# Altium footprint library Modules.PcbLib: 14 footprints (part 3 of 6)
Each footprint in its own frame and in the unit in brackets; x right, y up, seen from the top. Pads: shape width x height; smd on the part's side, far side on the other; paste and mask are expansions set on the pad; w line width, h text height; cw(c..) or ccw(c..) is an arc to the next point about the centre after c.
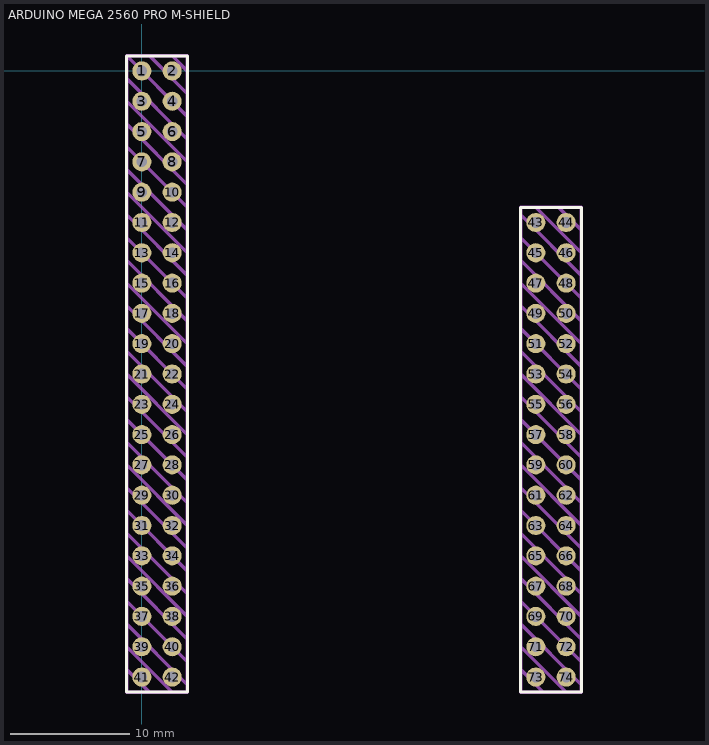
[diagram p2: the footprint, top view; thin cyan lines are the x and y axes]

## ARDUINO MEGA 2560 PRO M-SHIELD [mm]
pads (74):
  round 1.6 hole 0.9: 1(0,0) 2(2.54,0) 3(0,-2.54) 4(2.54,-2.54) 5(0,-5.08) 6(2.54,-5.08) 7(0,-7.62) 8(2.54,-7.62) 9(0,-10.16) 10(2.54,-10.16) 11(0,-12.7) 12(2.54,-12.7) 13(0,-15.24) 14(2.54,-15.24) 15(0,-17.78) 16(2.54,-17.78) 17(0,-20.32) 18(2.54,-20.32) 19(0,-22.86) 20(2.54,-22.86) 21(0,-25.4) 22(2.54,-25.4) 23(0,-27.94) 24(2.54,-27.94) 25(0,-30.48) 26(2.54,-30.48) 27(0,-33.02) 28(2.54,-33.02) 29(0,-35.56) 30(2.54,-35.56) 31(0,-38.1) 32(2.54,-38.1) 33(0,-40.64) 34(2.54,-40.64) 35(0,-43.18) 36(2.54,-43.18) 37(0,-45.72) 38(2.54,-45.72) 39(0,-48.26) 40(2.54,-48.26) 41(0,-50.8) 42(2.54,-50.8) 43(33.02,-12.7) 44(35.56,-12.7) 45(33.02,-15.24) 46(35.56,-15.24) 47(33.02,-17.78) 48(35.56,-17.78) 49(33.02,-20.32) 50(35.56,-20.32) 51(33.02,-22.86) 52(35.56,-22.86) 53(33.02,-25.4) 54(35.56,-25.4) 55(33.02,-27.94) 56(35.56,-27.94) 57(33.02,-30.48) 58(35.56,-30.48) 59(33.02,-33.02) 60(35.56,-33.02) 61(33.02,-35.56) 62(35.56,-35.56) 63(33.02,-38.1) 64(35.56,-38.1) 65(33.02,-40.64) 66(35.56,-40.64) 67(33.02,-43.18) 68(35.56,-43.18) 69(33.02,-45.72) 70(35.56,-45.72) 71(33.02,-48.26) 72(35.56,-48.26) 73(33.02,-50.8) 74(35.56,-50.8)
Top Overlay:
  lines w0.25: -1.27,-52.07 3.81,-52.07 3.81,1.27 -1.27,1.27 -1.27,-52.07 ; 31.75,-52.07 31.75,-11.43 36.83,-11.43 36.83,-52.07 31.75,-52.07
Top Draw:
  lines w0.3: -1.27,-50.165 0.635,-52.07 ; -1.27,-48.26 2.54,-52.07 ; -1.27,-46.355 3.81,-51.435 ; -1.27,-44.45 3.81,-49.53 ; -1.27,-42.545 3.81,-47.625 ; -1.27,-40.64 3.81,-45.72 ; -1.27,-38.735 3.81,-43.815 ; -1.27,-36.83 3.81,-41.91 ; -1.27,-34.925 3.81,-40.005 ; -1.27,-33.02 3.81,-38.1 ; -1.27,-31.115 3.81,-36.195 ; -1.27,-29.21 3.81,-34.29 ; -1.27,-27.305 3.81,-32.385 ; -1.27,-25.4 3.81,-30.48 ; -1.27,-23.495 3.81,-28.575 ; -1.27,-21.59 3.81,-26.67 ; -1.27,-19.685 3.81,-24.765 ; -1.27,-17.78 3.81,-22.86 ; -1.27,-15.875 3.81,-20.955 ; -1.27,-13.97 3.81,-19.05 ; -1.27,-12.065 3.81,-17.145 ; -1.27,-10.16 3.81,-15.24 ; -1.27,-8.255 3.81,-13.335 ; -1.27,-6.35 3.81,-11.43 ; -1.27,-4.445 3.81,-9.525 ; -1.27,-2.54 3.81,-7.62 ; -1.27,-0.635 3.81,-5.715 ; 0.635,1.27 3.81,-1.905 ; 2.54,1.27 3.81,0 ; 3.81,-3.81 -1.27,1.27 ; 31.75,-50.165 33.655,-52.07 ; 31.75,-48.26 35.56,-52.07 ; 31.75,-46.355 36.83,-51.435 ; 31.75,-44.45 36.83,-49.53 ; 31.75,-42.545 36.83,-47.625 ; 31.75,-40.64 36.83,-45.72 ; 31.75,-38.735 36.83,-43.815 ; 31.75,-36.83 36.83,-41.91 ; 31.75,-34.925 36.83,-40.005 ; 31.75,-33.02 36.83,-38.1 ; 31.75,-31.115 36.83,-36.195 ; 31.75,-29.21 36.83,-34.29 ; 31.75,-27.305 36.83,-32.385 ; 31.75,-25.4 36.83,-30.48 ; 31.75,-23.495 36.83,-28.575 ; 31.75,-21.59 36.83,-26.67 ; 31.75,-19.685 36.83,-24.765 ; 31.75,-17.78 36.83,-22.86 ; 31.75,-15.875 36.83,-20.955 ; 31.75,-13.97 36.83,-19.05 ; 31.75,-12.065 36.83,-17.145 ; 33.02,-11.43 36.83,-15.24 ; 34.925,-11.43 36.83,-13.335 ; -1.27,1.27 -1.27,-52.07 3.81,-52.07 3.81,1.27 -1.27,1.27 ; 31.75,-52.07 31.75,-11.43 36.83,-11.43 36.83,-52.07 31.75,-52.07
3D body: height 8, standoff 7.5, extent 36.068,-51.816 36.569,-49.784
3D body: height 7.5, standoff 0, extent 36.068,-51.333 36.094,-50.267
3D body: height 7.5, standoff 0, extent 35.027,-51.333 36.093,-51.308
3D body: height 8, standoff 7.5, extent 34.544,-51.808 36.576,-51.308
3D body: height 8, standoff 7.5, extent 34.544,-50.292 36.576,-49.791
3D body: height 8, standoff 7.5, extent 34.552,-51.841 35.052,-49.809
3D body: height 8, standoff 0, extent 34.29,-49.809 36.83,-49.53
3D body: height 1, standoff 0, extent 34.925,-51.435 36.195,-50.165
3D body: height 7, standoff 0, extent 36.043,-51.333 36.093,-50.266
3D body: height 7, standoff 0, extent 35.027,-51.333 36.093,-51.282
3D body: height 7, standoff 0, extent 35.027,-51.333 35.077,-50.266
3D body: height 8, standoff 0, extent 34.29,-52.07 34.57,-49.53
3D body: height 0, standoff -3, extent 35.306,-50.927 35.814,-50.673
3D body: height 8, standoff 0, extent 36.551,-52.07 36.83,-49.53
3D body: height 8, standoff 0, extent 34.29,-52.07 36.83,-51.79
3D body: height 7.5, standoff 0, extent 35.027,-51.333 35.052,-50.266
3D body: height 7.5, standoff 0, extent 35.027,-50.292 36.094,-50.266
3D body: height 7, standoff 0, extent 35.027,-50.317 36.093,-50.266
3D body: height 8, standoff 7.5, extent 33.528,-51.816 34.029,-49.784
3D body: height 7.5, standoff 0, extent 33.528,-51.333 33.554,-50.267
3D body: height 7.5, standoff 0, extent 32.487,-51.333 33.553,-51.308
3D body: height 8, standoff 7.5, extent 32.004,-51.808 34.036,-51.308
3D body: height 8, standoff 7.5, extent 32.004,-50.292 34.036,-49.791
3D body: height 8, standoff 7.5, extent 32.012,-51.841 32.512,-49.809
3D body: height 8, standoff 0, extent 31.75,-49.809 34.29,-49.53
3D body: height 1, standoff 0, extent 32.385,-51.435 33.655,-50.165
3D body: height 7, standoff 0, extent 33.503,-51.333 33.553,-50.266
3D body: height 7, standoff 0, extent 32.487,-51.333 33.553,-51.282
3D body: height 7, standoff 0, extent 32.487,-51.333 32.537,-50.266
3D body: height 8, standoff 0, extent 31.75,-52.07 32.03,-49.53
3D body: height 0, standoff -3, extent 32.766,-50.927 33.274,-50.673
3D body: height 8, standoff 0, extent 34.011,-52.07 34.29,-49.53
3D body: height 8, standoff 0, extent 31.75,-52.07 34.29,-51.79
3D body: height 7.5, standoff 0, extent 32.487,-51.333 32.512,-50.266
3D body: height 7.5, standoff 0, extent 32.487,-50.292 33.554,-50.266
3D body: height 7, standoff 0, extent 32.487,-50.317 33.553,-50.266
3D body: height 8, standoff 7.5, extent 36.068,-46.736 36.569,-44.704
3D body: height 7.5, standoff 0, extent 36.068,-48.793 36.094,-47.727
3D body: height 7.5, standoff 0, extent 35.027,-48.793 36.093,-48.768
3D body: height 8, standoff 7.5, extent 34.544,-49.268 36.576,-48.768
3D body: height 8, standoff 7.5, extent 36.068,-49.276 36.569,-47.244
3D body: height 8, standoff 7.5, extent 34.544,-47.752 36.576,-47.251
3D body: height 8, standoff 7.5, extent 34.552,-49.301 35.052,-47.269
3D body: height 8, standoff 0, extent 34.29,-47.269 36.83,-46.99
3D body: height 1, standoff 0, extent 34.925,-48.895 36.195,-47.625
3D body: height 7, standoff 0, extent 36.043,-48.793 36.093,-47.726
3D body: height 7, standoff 0, extent 35.027,-48.793 36.093,-48.742
3D body: height 7, standoff 0, extent 35.027,-48.793 35.077,-47.726
3D body: height 8, standoff 0, extent 34.29,-49.53 34.57,-46.99
3D body: height 0, standoff -3, extent 35.306,-48.387 35.814,-48.133
3D body: height 8, standoff 0, extent 36.551,-49.53 36.83,-46.99
3D body: height 8, standoff 0, extent 34.29,-49.53 36.83,-49.25
3D body: height 7.5, standoff 0, extent 35.027,-48.793 35.052,-47.726
3D body: height 7.5, standoff 0, extent 35.027,-47.752 36.094,-47.726
3D body: height 7, standoff 0, extent 35.027,-47.777 36.093,-47.726
3D body: height 7.5, standoff 0, extent 36.068,-46.253 36.094,-45.187
3D body: height 7.5, standoff 0, extent 35.027,-46.253 36.093,-46.228
3D body: height 8, standoff 7.5, extent 34.544,-46.728 36.576,-46.228
3D body: height 8, standoff 7.5, extent 34.544,-45.212 36.576,-44.711
3D body: height 8, standoff 7.5, extent 34.552,-46.761 35.052,-44.729
3D body: height 8, standoff 0, extent 34.29,-44.729 36.83,-44.45
3D body: height 1, standoff 0, extent 34.925,-46.355 36.195,-45.085
3D body: height 7, standoff 0, extent 36.043,-46.253 36.093,-45.186
3D body: height 7, standoff 0, extent 35.027,-46.253 36.093,-46.202
3D body: height 7, standoff 0, extent 35.027,-46.253 35.077,-45.186
3D body: height 8, standoff 0, extent 34.29,-46.99 34.57,-44.45
3D body: height 0, standoff -3, extent 35.306,-45.847 35.814,-45.593
3D body: height 8, standoff 0, extent 36.551,-46.99 36.83,-44.45
3D body: height 8, standoff 0, extent 34.29,-46.99 36.83,-46.71
3D body: height 7.5, standoff 0, extent 35.027,-46.253 35.052,-45.186
3D body: height 7.5, standoff 0, extent 35.027,-45.212 36.094,-45.186
3D body: height 7, standoff 0, extent 35.027,-45.237 36.093,-45.186
3D body: height 8, standoff 7.5, extent 33.528,-46.736 34.029,-44.704
3D body: height 7.5, standoff 0, extent 33.528,-48.793 33.554,-47.727
3D body: height 7.5, standoff 0, extent 32.487,-48.793 33.553,-48.768
3D body: height 8, standoff 7.5, extent 32.004,-49.268 34.036,-48.768
3D body: height 8, standoff 7.5, extent 33.528,-49.276 34.029,-47.244
3D body: height 8, standoff 7.5, extent 32.004,-47.752 34.036,-47.251
3D body: height 8, standoff 7.5, extent 32.012,-49.301 32.512,-47.269
3D body: height 8, standoff 0, extent 31.75,-47.269 34.29,-46.99
3D body: height 1, standoff 0, extent 32.385,-48.895 33.655,-47.625
3D body: height 7, standoff 0, extent 33.503,-48.793 33.553,-47.726
3D body: height 7, standoff 0, extent 32.487,-48.793 33.553,-48.742
3D body: height 7, standoff 0, extent 32.487,-48.793 32.537,-47.726
3D body: height 8, standoff 0, extent 31.75,-49.53 32.03,-46.99
3D body: height 0, standoff -3, extent 32.766,-48.387 33.274,-48.133
3D body: height 8, standoff 0, extent 34.011,-49.53 34.29,-46.99
3D body: height 8, standoff 0, extent 31.75,-49.53 34.29,-49.25
3D body: height 7.5, standoff 0, extent 32.487,-48.793 32.512,-47.726
3D body: height 7.5, standoff 0, extent 32.487,-47.752 33.554,-47.726
3D body: height 7, standoff 0, extent 32.487,-47.777 33.553,-47.726
3D body: height 7.5, standoff 0, extent 33.528,-46.253 33.554,-45.187
3D body: height 7.5, standoff 0, extent 32.487,-46.253 33.553,-46.228
3D body: height 8, standoff 7.5, extent 32.004,-46.728 34.036,-46.228
3D body: height 8, standoff 7.5, extent 32.004,-45.212 34.036,-44.711
3D body: height 8, standoff 7.5, extent 32.012,-46.761 32.512,-44.729
3D body: height 8, standoff 0, extent 31.75,-44.729 34.29,-44.45
3D body: height 1, standoff 0, extent 32.385,-46.355 33.655,-45.085
3D body: height 7, standoff 0, extent 33.503,-46.253 33.553,-45.186
3D body: height 7, standoff 0, extent 32.487,-46.253 33.553,-46.202
3D body: height 7, standoff 0, extent 32.487,-46.253 32.537,-45.186
3D body: height 8, standoff 0, extent 31.75,-46.99 32.03,-44.45
3D body: height 0, standoff -3, extent 32.766,-45.847 33.274,-45.593
3D body: height 8, standoff 0, extent 34.011,-46.99 34.29,-44.45
3D body: height 8, standoff 0, extent 31.75,-46.99 34.29,-46.71
3D body: height 7.5, standoff 0, extent 32.487,-46.253 32.512,-45.186
3D body: height 7.5, standoff 0, extent 32.487,-45.212 33.554,-45.186
3D body: height 7, standoff 0, extent 32.487,-45.237 33.553,-45.186
3D body: height 8, standoff 7.5, extent 36.068,-41.656 36.569,-39.624
3D body: height 7.5, standoff 0, extent 36.068,-43.713 36.094,-42.647
3D body: height 7.5, standoff 0, extent 35.027,-43.713 36.094,-43.688
3D body: height 8, standoff 7.5, extent 34.544,-44.188 36.576,-43.688
3D body: height 8, standoff 7.5, extent 36.068,-44.196 36.569,-42.164
3D body: height 8, standoff 7.5, extent 34.544,-42.672 36.576,-42.171
3D body: height 8, standoff 7.5, extent 34.552,-44.221 35.052,-42.189
3D body: height 8, standoff 0, extent 34.29,-42.189 36.83,-41.91
3D body: height 1, standoff 0, extent 34.925,-43.815 36.195,-42.545
3D body: height 7, standoff 0, extent 36.043,-43.713 36.094,-42.646
3D body: height 7, standoff 0, extent 35.027,-43.713 36.094,-43.662
3D body: height 7, standoff 0, extent 35.027,-43.713 35.078,-42.646
3D body: height 8, standoff 0, extent 34.29,-44.45 34.57,-41.91
3D body: height 0, standoff -3, extent 35.306,-43.307 35.814,-43.053
3D body: height 8, standoff 0, extent 36.551,-44.45 36.83,-41.91
3D body: height 8, standoff 0, extent 34.29,-44.45 36.83,-44.171
3D body: height 7.5, standoff 0, extent 35.027,-43.713 35.052,-42.647
3D body: height 7.5, standoff 0, extent 35.027,-42.672 36.094,-42.647
3D body: height 7, standoff 0, extent 35.027,-42.697 36.094,-42.646
3D body: height 7.5, standoff 0, extent 36.068,-41.173 36.094,-40.107
3D body: height 7.5, standoff 0, extent 35.027,-41.173 36.094,-41.148
3D body: height 8, standoff 7.5, extent 34.544,-41.648 36.576,-41.148
3D body: height 8, standoff 7.5, extent 34.544,-40.132 36.576,-39.631
3D body: height 8, standoff 7.5, extent 34.552,-41.681 35.052,-39.649
3D body: height 8, standoff 0, extent 34.29,-39.649 36.83,-39.37
3D body: height 1, standoff 0, extent 34.925,-41.275 36.195,-40.005
3D body: height 7, standoff 0, extent 36.043,-41.173 36.094,-40.106
3D body: height 7, standoff 0, extent 35.027,-41.173 36.094,-41.122
3D body: height 7, standoff 0, extent 35.027,-41.173 35.078,-40.106
3D body: height 8, standoff 0, extent 34.29,-41.91 34.57,-39.37
3D body: height 0, standoff -3, extent 35.306,-40.767 35.814,-40.513
3D body: height 8, standoff 0, extent 36.551,-41.91 36.83,-39.37
3D body: height 8, standoff 0, extent 34.29,-41.91 36.83,-41.631
3D body: height 7.5, standoff 0, extent 35.027,-41.173 35.052,-40.107
3D body: height 7.5, standoff 0, extent 35.027,-40.132 36.094,-40.107
3D body: height 7, standoff 0, extent 35.027,-40.157 36.094,-40.106
3D body: height 8, standoff 7.5, extent 33.528,-41.656 34.029,-39.624
3D body: height 7.5, standoff 0, extent 33.528,-43.713 33.554,-42.647
3D body: height 7.5, standoff 0, extent 32.487,-43.713 33.554,-43.688
3D body: height 8, standoff 7.5, extent 32.004,-44.188 34.036,-43.688
3D body: height 8, standoff 7.5, extent 33.528,-44.196 34.029,-42.164
3D body: height 8, standoff 7.5, extent 32.004,-42.672 34.036,-42.171
3D body: height 8, standoff 7.5, extent 32.012,-44.221 32.512,-42.189
3D body: height 8, standoff 0, extent 31.75,-42.189 34.29,-41.91
3D body: height 1, standoff 0, extent 32.385,-43.815 33.655,-42.545
3D body: height 7, standoff 0, extent 33.503,-43.713 33.554,-42.646
3D body: height 7, standoff 0, extent 32.487,-43.713 33.554,-43.662
3D body: height 7, standoff 0, extent 32.487,-43.713 32.538,-42.646
3D body: height 8, standoff 0, extent 31.75,-44.45 32.03,-41.91
3D body: height 0, standoff -3, extent 32.766,-43.307 33.274,-43.053
3D body: height 8, standoff 0, extent 34.011,-44.45 34.29,-41.91
3D body: height 8, standoff 0, extent 31.75,-44.45 34.29,-44.171
3D body: height 7.5, standoff 0, extent 32.487,-43.713 32.512,-42.647
3D body: height 7.5, standoff 0, extent 32.487,-42.672 33.554,-42.647
3D body: height 7, standoff 0, extent 32.487,-42.697 33.554,-42.646
3D body: height 7.5, standoff 0, extent 33.528,-41.173 33.554,-40.107
3D body: height 7.5, standoff 0, extent 32.487,-41.173 33.554,-41.148
3D body: height 8, standoff 7.5, extent 32.004,-41.648 34.036,-41.148
3D body: height 8, standoff 7.5, extent 32.004,-40.132 34.036,-39.631
3D body: height 8, standoff 7.5, extent 32.012,-41.681 32.512,-39.649
3D body: height 8, standoff 0, extent 31.75,-39.649 34.29,-39.37
3D body: height 1, standoff 0, extent 32.385,-41.275 33.655,-40.005
3D body: height 7, standoff 0, extent 33.503,-41.173 33.554,-40.106
3D body: height 7, standoff 0, extent 32.487,-41.173 33.554,-41.122
3D body: height 7, standoff 0, extent 32.487,-41.173 32.538,-40.106
3D body: height 8, standoff 0, extent 31.75,-41.91 32.03,-39.37
3D body: height 0, standoff -3, extent 32.766,-40.767 33.274,-40.513
3D body: height 8, standoff 0, extent 34.011,-41.91 34.29,-39.37
3D body: height 8, standoff 0, extent 31.75,-41.91 34.29,-41.631
3D body: height 7.5, standoff 0, extent 32.487,-41.173 32.512,-40.107
3D body: height 7.5, standoff 0, extent 32.487,-40.132 33.554,-40.107
3D body: height 7, standoff 0, extent 32.487,-40.157 33.554,-40.106
3D body: height 8, standoff 7.5, extent 36.068,-36.576 36.569,-34.544
3D body: height 7.5, standoff 0, extent 36.068,-38.633 36.093,-37.566
3D body: height 7.5, standoff 0, extent 35.027,-38.633 36.093,-38.608
3D body: height 8, standoff 7.5, extent 34.544,-39.108 36.576,-38.608
3D body: height 8, standoff 7.5, extent 36.068,-39.116 36.569,-37.084
3D body: height 8, standoff 7.5, extent 34.544,-37.592 36.576,-37.091
3D body: height 8, standoff 7.5, extent 34.552,-39.141 35.052,-37.109
3D body: height 8, standoff 0, extent 34.29,-37.109 36.83,-36.83
3D body: height 1, standoff 0, extent 34.925,-38.735 36.195,-37.465
3D body: height 7, standoff 0, extent 36.043,-38.633 36.093,-37.566
3D body: height 7, standoff 0, extent 35.027,-38.633 36.093,-38.582
3D body: height 7, standoff 0, extent 35.027,-38.633 35.077,-37.566
3D body: height 8, standoff 0, extent 34.29,-39.37 34.569,-36.83
3D body: height 0, standoff -3, extent 35.306,-38.227 35.814,-37.973
3D body: height 8, standoff 0, extent 36.551,-39.37 36.83,-36.83
3D body: height 8, standoff 0, extent 34.29,-39.37 36.83,-39.09
3D body: height 7.5, standoff 0, extent 35.027,-38.633 35.052,-37.566
3D body: height 7.5, standoff 0, extent 35.027,-37.592 36.094,-37.566
3D body: height 7, standoff 0, extent 35.027,-37.617 36.093,-37.566
3D body: height 7.5, standoff 0, extent 36.068,-36.093 36.093,-35.026
3D body: height 7.5, standoff 0, extent 35.027,-36.093 36.093,-36.068
3D body: height 8, standoff 7.5, extent 34.544,-36.568 36.576,-36.068
3D body: height 8, standoff 7.5, extent 34.544,-35.052 36.576,-34.551
3D body: height 8, standoff 7.5, extent 34.552,-36.601 35.052,-34.569
3D body: height 8, standoff 0, extent 34.29,-34.569 36.83,-34.29
3D body: height 1, standoff 0, extent 34.925,-36.195 36.195,-34.925
3D body: height 7, standoff 0, extent 36.043,-36.093 36.093,-35.026
3D body: height 7, standoff 0, extent 35.027,-36.093 36.093,-36.042
3D body: height 7, standoff 0, extent 35.027,-36.093 35.077,-35.026
3D body: height 8, standoff 0, extent 34.29,-36.83 34.569,-34.29
3D body: height 0, standoff -3, extent 35.306,-35.687 35.814,-35.433
3D body: height 8, standoff 0, extent 36.551,-36.83 36.83,-34.29
3D body: height 8, standoff 0, extent 34.29,-36.83 36.83,-36.55
3D body: height 7.5, standoff 0, extent 35.027,-36.093 35.052,-35.026
3D body: height 7.5, standoff 0, extent 35.027,-35.052 36.094,-35.026
3D body: height 7, standoff 0, extent 35.027,-35.077 36.093,-35.026
3D body: height 8, standoff 7.5, extent 33.528,-36.576 34.029,-34.544
3D body: height 7.5, standoff 0, extent 33.528,-38.633 33.553,-37.566
3D body: height 7.5, standoff 0, extent 32.487,-38.633 33.553,-38.608
3D body: height 8, standoff 7.5, extent 32.004,-39.108 34.036,-38.608
3D body: height 8, standoff 7.5, extent 33.528,-39.116 34.029,-37.084
3D body: height 8, standoff 7.5, extent 32.004,-37.592 34.036,-37.091
3D body: height 8, standoff 7.5, extent 32.012,-39.141 32.512,-37.109
3D body: height 8, standoff 0, extent 31.75,-37.109 34.29,-36.83
3D body: height 1, standoff 0, extent 32.385,-38.735 33.655,-37.465
3D body: height 7, standoff 0, extent 33.503,-38.633 33.553,-37.566
3D body: height 7, standoff 0, extent 32.487,-38.633 33.553,-38.582
3D body: height 7, standoff 0, extent 32.487,-38.633 32.537,-37.566
3D body: height 8, standoff 0, extent 31.75,-39.37 32.029,-36.83
3D body: height 0, standoff -3, extent 32.766,-38.227 33.274,-37.973
3D body: height 8, standoff 0, extent 34.011,-39.37 34.29,-36.83
3D body: height 8, standoff 0, extent 31.75,-39.37 34.29,-39.09
3D body: height 7.5, standoff 0, extent 32.487,-38.633 32.512,-37.566
3D body: height 7.5, standoff 0, extent 32.487,-37.592 33.554,-37.566
3D body: height 7, standoff 0, extent 32.487,-37.617 33.553,-37.566
3D body: height 7.5, standoff 0, extent 33.528,-36.093 33.553,-35.026
3D body: height 7.5, standoff 0, extent 32.487,-36.093 33.553,-36.068
3D body: height 8, standoff 7.5, extent 32.004,-36.568 34.036,-36.068
3D body: height 8, standoff 7.5, extent 32.004,-35.052 34.036,-34.551
3D body: height 8, standoff 7.5, extent 32.012,-36.601 32.512,-34.569
3D body: height 8, standoff 0, extent 31.75,-34.569 34.29,-34.29
3D body: height 1, standoff 0, extent 32.385,-36.195 33.655,-34.925
3D body: height 7, standoff 0, extent 33.503,-36.093 33.553,-35.026
3D body: height 7, standoff 0, extent 32.487,-36.093 33.553,-36.042
3D body: height 7, standoff 0, extent 32.487,-36.093 32.537,-35.026
3D body: height 8, standoff 0, extent 31.75,-36.83 32.029,-34.29
3D body: height 0, standoff -3, extent 32.766,-35.687 33.274,-35.433
3D body: height 8, standoff 0, extent 34.011,-36.83 34.29,-34.29
3D body: height 8, standoff 0, extent 31.75,-36.83 34.29,-36.55
3D body: height 7.5, standoff 0, extent 32.487,-36.093 32.512,-35.026
3D body: height 7.5, standoff 0, extent 32.487,-35.052 33.554,-35.026
3D body: height 7, standoff 0, extent 32.487,-35.077 33.553,-35.026
3D body: height 8, standoff 7.5, extent 36.068,-31.496 36.569,-29.464
3D body: height 7.5, standoff 0, extent 36.068,-33.553 36.094,-32.487
3D body: height 7.5, standoff 0, extent 35.027,-33.553 36.093,-33.528
3D body: height 8, standoff 7.5, extent 34.544,-34.028 36.576,-33.528
3D body: height 8, standoff 7.5, extent 36.068,-34.036 36.569,-32.004
3D body: height 8, standoff 7.5, extent 34.544,-32.512 36.576,-32.011
3D body: height 8, standoff 7.5, extent 34.552,-34.061 35.052,-32.029
3D body: height 8, standoff 0, extent 34.29,-32.029 36.83,-31.75
3D body: height 1, standoff 0, extent 34.925,-33.655 36.195,-32.385
3D body: height 7, standoff 0, extent 36.043,-33.553 36.093,-32.486
3D body: height 7, standoff 0, extent 35.027,-33.553 36.093,-33.502
3D body: height 7, standoff 0, extent 35.027,-33.553 35.077,-32.486
3D body: height 8, standoff 0, extent 34.29,-34.29 34.57,-31.75
3D body: height 0, standoff -3, extent 35.306,-33.147 35.814,-32.893
3D body: height 8, standoff 0, extent 36.551,-34.29 36.83,-31.75
3D body: height 8, standoff 0, extent 34.29,-34.29 36.83,-34.01
3D body: height 7.5, standoff 0, extent 35.027,-33.553 35.052,-32.486
3D body: height 7.5, standoff 0, extent 35.027,-32.512 36.094,-32.486
3D body: height 7, standoff 0, extent 35.027,-32.537 36.093,-32.486
3D body: height 7.5, standoff 0, extent 36.068,-31.013 36.094,-29.947
3D body: height 7.5, standoff 0, extent 35.027,-31.013 36.093,-30.988
3D body: height 8, standoff 7.5, extent 34.544,-31.488 36.576,-30.988
3D body: height 8, standoff 7.5, extent 34.544,-29.972 36.576,-29.471
3D body: height 8, standoff 7.5, extent 34.552,-31.521 35.052,-29.489
3D body: height 8, standoff 0, extent 34.29,-29.489 36.83,-29.21
3D body: height 1, standoff 0, extent 34.925,-31.115 36.195,-29.845
3D body: height 7, standoff 0, extent 36.043,-31.013 36.093,-29.946
3D body: height 7, standoff 0, extent 35.027,-31.013 36.093,-30.962
3D body: height 7, standoff 0, extent 35.027,-31.013 35.077,-29.946
3D body: height 8, standoff 0, extent 34.29,-31.75 34.57,-29.21
3D body: height 0, standoff -3, extent 35.306,-30.607 35.814,-30.353
3D body: height 8, standoff 0, extent 36.551,-31.75 36.83,-29.21
3D body: height 8, standoff 0, extent 34.29,-31.75 36.83,-31.47
3D body: height 7.5, standoff 0, extent 35.027,-31.013 35.052,-29.946
3D body: height 7.5, standoff 0, extent 35.027,-29.972 36.094,-29.946
3D body: height 7, standoff 0, extent 35.027,-29.997 36.093,-29.946
3D body: height 8, standoff 7.5, extent 33.528,-31.496 34.029,-29.464
3D body: height 7.5, standoff 0, extent 33.528,-33.553 33.554,-32.487
3D body: height 7.5, standoff 0, extent 32.487,-33.553 33.553,-33.528
3D body: height 8, standoff 7.5, extent 32.004,-34.028 34.036,-33.528
3D body: height 8, standoff 7.5, extent 33.528,-34.036 34.029,-32.004
3D body: height 8, standoff 7.5, extent 32.004,-32.512 34.036,-32.011
3D body: height 8, standoff 7.5, extent 32.012,-34.061 32.512,-32.029
3D body: height 8, standoff 0, extent 31.75,-32.029 34.29,-31.75
3D body: height 1, standoff 0, extent 32.385,-33.655 33.655,-32.385
3D body: height 7, standoff 0, extent 33.503,-33.553 33.553,-32.486
3D body: height 7, standoff 0, extent 32.487,-33.553 33.553,-33.502
3D body: height 7, standoff 0, extent 32.487,-33.553 32.537,-32.486
3D body: height 8, standoff 0, extent 31.75,-34.29 32.03,-31.75
3D body: height 0, standoff -3, extent 32.766,-33.147 33.274,-32.893
3D body: height 8, standoff 0, extent 34.011,-34.29 34.29,-31.75
3D body: height 8, standoff 0, extent 31.75,-34.29 34.29,-34.01
3D body: height 7.5, standoff 0, extent 32.487,-33.553 32.512,-32.486
3D body: height 7.5, standoff 0, extent 32.487,-32.512 33.554,-32.486
3D body: height 7, standoff 0, extent 32.487,-32.537 33.553,-32.486
3D body: height 7.5, standoff 0, extent 33.528,-31.013 33.554,-29.947
3D body: height 7.5, standoff 0, extent 32.487,-31.013 33.553,-30.988
3D body: height 8, standoff 7.5, extent 32.004,-31.488 34.036,-30.988
3D body: height 8, standoff 7.5, extent 32.004,-29.972 34.036,-29.471
3D body: height 8, standoff 7.5, extent 32.012,-31.521 32.512,-29.489
3D body: height 8, standoff 0, extent 31.75,-29.489 34.29,-29.21
3D body: height 1, standoff 0, extent 32.385,-31.115 33.655,-29.845
3D body: height 7, standoff 0, extent 33.503,-31.013 33.553,-29.946
3D body: height 7, standoff 0, extent 32.487,-31.013 33.553,-30.962
3D body: height 7, standoff 0, extent 32.487,-31.013 32.537,-29.946
3D body: height 8, standoff 0, extent 31.75,-31.75 32.03,-29.21
3D body: height 0, standoff -3, extent 32.766,-30.607 33.274,-30.353
3D body: height 8, standoff 0, extent 34.011,-31.75 34.29,-29.21
3D body: height 8, standoff 0, extent 31.75,-31.75 34.29,-31.47
3D body: height 7.5, standoff 0, extent 32.487,-31.013 32.512,-29.946
3D body: height 7.5, standoff 0, extent 32.487,-29.972 33.554,-29.946
3D body: height 7, standoff 0, extent 32.487,-29.997 33.553,-29.946
3D body: height 8, standoff 7.5, extent 36.068,-26.416 36.569,-24.384
3D body: height 7.5, standoff 0, extent 36.068,-28.473 36.094,-27.407
3D body: height 7.5, standoff 0, extent 35.027,-28.473 36.093,-28.448
3D body: height 8, standoff 7.5, extent 34.544,-28.948 36.576,-28.448
3D body: height 8, standoff 7.5, extent 36.068,-28.956 36.569,-26.924
3D body: height 8, standoff 7.5, extent 34.544,-27.432 36.576,-26.931
3D body: height 8, standoff 7.5, extent 34.552,-28.981 35.052,-26.949
3D body: height 8, standoff 0, extent 34.29,-26.949 36.83,-26.67
3D body: height 1, standoff 0, extent 34.925,-28.575 36.195,-27.305
3D body: height 7, standoff 0, extent 36.043,-28.473 36.093,-27.406
3D body: height 7, standoff 0, extent 35.027,-28.473 36.093,-28.422
3D body: height 7, standoff 0, extent 35.027,-28.473 35.077,-27.406
3D body: height 8, standoff 0, extent 34.29,-29.21 34.57,-26.67
3D body: height 0, standoff -3, extent 35.306,-28.067 35.814,-27.813
3D body: height 8, standoff 0, extent 36.551,-29.21 36.83,-26.67
3D body: height 8, standoff 0, extent 34.29,-29.21 36.83,-28.93
3D body: height 7.5, standoff 0, extent 35.027,-28.473 35.052,-27.406
3D body: height 7.5, standoff 0, extent 35.027,-27.432 36.094,-27.406
3D body: height 7, standoff 0, extent 35.027,-27.457 36.093,-27.406
3D body: height 7.5, standoff 0, extent 36.068,-25.933 36.094,-24.867
3D body: height 7.5, standoff 0, extent 35.027,-25.933 36.093,-25.908
3D body: height 8, standoff 7.5, extent 34.544,-26.408 36.576,-25.908
3D body: height 8, standoff 7.5, extent 34.544,-24.892 36.576,-24.391
3D body: height 8, standoff 7.5, extent 34.552,-26.441 35.052,-24.409
3D body: height 8, standoff 0, extent 34.29,-24.409 36.83,-24.13
3D body: height 1, standoff 0, extent 34.925,-26.035 36.195,-24.765
3D body: height 7, standoff 0, extent 36.043,-25.933 36.093,-24.866
3D body: height 7, standoff 0, extent 35.027,-25.933 36.093,-25.882
3D body: height 7, standoff 0, extent 35.027,-25.933 35.077,-24.866
3D body: height 8, standoff 0, extent 34.29,-26.67 34.57,-24.13
3D body: height 0, standoff -3, extent 35.306,-25.527 35.814,-25.273
3D body: height 8, standoff 0, extent 36.551,-26.67 36.83,-24.13
3D body: height 8, standoff 0, extent 34.29,-26.67 36.83,-26.39
3D body: height 7.5, standoff 0, extent 35.027,-25.933 35.052,-24.866
3D body: height 7.5, standoff 0, extent 35.027,-24.892 36.094,-24.866
3D body: height 7, standoff 0, extent 35.027,-24.917 36.093,-24.866
3D body: height 8, standoff 7.5, extent 33.528,-26.416 34.029,-24.384
3D body: height 7.5, standoff 0, extent 33.528,-28.473 33.554,-27.407
3D body: height 7.5, standoff 0, extent 32.487,-28.473 33.553,-28.448
3D body: height 8, standoff 7.5, extent 32.004,-28.948 34.036,-28.448
3D body: height 8, standoff 7.5, extent 33.528,-28.956 34.029,-26.924
3D body: height 8, standoff 7.5, extent 32.004,-27.432 34.036,-26.931
3D body: height 8, standoff 7.5, extent 32.012,-28.981 32.512,-26.949
3D body: height 8, standoff 0, extent 31.75,-26.949 34.29,-26.67
3D body: height 1, standoff 0, extent 32.385,-28.575 33.655,-27.305
3D body: height 7, standoff 0, extent 33.503,-28.473 33.553,-27.406
3D body: height 7, standoff 0, extent 32.487,-28.473 33.553,-28.422
3D body: height 7, standoff 0, extent 32.487,-28.473 32.537,-27.406
3D body: height 8, standoff 0, extent 31.75,-29.21 32.03,-26.67
3D body: height 0, standoff -3, extent 32.766,-28.067 33.274,-27.813
3D body: height 8, standoff 0, extent 34.011,-29.21 34.29,-26.67
3D body: height 8, standoff 0, extent 31.75,-29.21 34.29,-28.93
3D body: height 7.5, standoff 0, extent 32.487,-28.473 32.512,-27.406
3D body: height 7.5, standoff 0, extent 32.487,-27.432 33.554,-27.406
3D body: height 7, standoff 0, extent 32.487,-27.457 33.553,-27.406
3D body: height 7.5, standoff 0, extent 33.528,-25.933 33.554,-24.867
3D body: height 7.5, standoff 0, extent 32.487,-25.933 33.553,-25.908
3D body: height 8, standoff 7.5, extent 32.004,-26.408 34.036,-25.908
3D body: height 8, standoff 7.5, extent 32.004,-24.892 34.036,-24.391
3D body: height 8, standoff 7.5, extent 32.012,-26.441 32.512,-24.409
3D body: height 8, standoff 0, extent 31.75,-24.409 34.29,-24.13
3D body: height 1, standoff 0, extent 32.385,-26.035 33.655,-24.765
3D body: height 7, standoff 0, extent 33.503,-25.933 33.553,-24.866
3D body: height 7, standoff 0, extent 32.487,-25.933 33.553,-25.882
3D body: height 7, standoff 0, extent 32.487,-25.933 32.537,-24.866
3D body: height 8, standoff 0, extent 31.75,-26.67 32.03,-24.13
3D body: height 0, standoff -3, extent 32.766,-25.527 33.274,-25.273
3D body: height 8, standoff 0, extent 34.011,-26.67 34.29,-24.13
3D body: height 8, standoff 0, extent 31.75,-26.67 34.29,-26.39
3D body: height 7.5, standoff 0, extent 32.487,-25.933 32.512,-24.866
3D body: height 7.5, standoff 0, extent 32.487,-24.892 33.554,-24.866
3D body: height 7, standoff 0, extent 32.487,-24.917 33.553,-24.866
3D body: height 8, standoff 7.5, extent 36.068,-21.336 36.569,-19.304
3D body: height 7.5, standoff 0, extent 36.068,-23.393 36.094,-22.327
3D body: height 7.5, standoff 0, extent 35.027,-23.393 36.094,-23.368
3D body: height 8, standoff 7.5, extent 34.544,-23.868 36.576,-23.368
3D body: height 8, standoff 7.5, extent 36.068,-23.876 36.569,-21.844
3D body: height 8, standoff 7.5, extent 34.544,-22.352 36.576,-21.851
3D body: height 8, standoff 7.5, extent 34.552,-23.901 35.052,-21.869
3D body: height 8, standoff 0, extent 34.29,-21.869 36.83,-21.59
3D body: height 1, standoff 0, extent 34.925,-23.495 36.195,-22.225
3D body: height 7, standoff 0, extent 36.043,-23.393 36.094,-22.326
3D body: height 7, standoff 0, extent 35.027,-23.393 36.094,-23.342
3D body: height 7, standoff 0, extent 35.027,-23.393 35.078,-22.326
3D body: height 8, standoff 0, extent 34.29,-24.13 34.57,-21.59
3D body: height 0, standoff -3, extent 35.306,-22.987 35.814,-22.733
3D body: height 8, standoff 0, extent 36.551,-24.13 36.83,-21.59
3D body: height 8, standoff 0, extent 34.29,-24.13 36.83,-23.851
3D body: height 7.5, standoff 0, extent 35.027,-23.393 35.052,-22.327
3D body: height 7.5, standoff 0, extent 35.027,-22.352 36.094,-22.327
3D body: height 7, standoff 0, extent 35.027,-22.377 36.094,-22.326
3D body: height 7.5, standoff 0, extent 36.068,-20.853 36.094,-19.787
3D body: height 7.5, standoff 0, extent 35.027,-20.853 36.094,-20.828
3D body: height 8, standoff 7.5, extent 34.544,-21.328 36.576,-20.828
3D body: height 8, standoff 7.5, extent 34.544,-19.812 36.576,-19.311
3D body: height 8, standoff 7.5, extent 34.552,-21.361 35.052,-19.329
3D body: height 8, standoff 0, extent 34.29,-19.329 36.83,-19.05
3D body: height 1, standoff 0, extent 34.925,-20.955 36.195,-19.685
3D body: height 7, standoff 0, extent 36.043,-20.853 36.094,-19.786
3D body: height 7, standoff 0, extent 35.027,-20.853 36.094,-20.802
3D body: height 7, standoff 0, extent 35.027,-20.853 35.078,-19.786
3D body: height 8, standoff 0, extent 34.29,-21.59 34.57,-19.05
3D body: height 0, standoff -3, extent 35.306,-20.447 35.814,-20.193
3D body: height 8, standoff 0, extent 36.551,-21.59 36.83,-19.05
3D body: height 8, standoff 0, extent 34.29,-21.59 36.83,-21.311
3D body: height 7.5, standoff 0, extent 35.027,-20.853 35.052,-19.787
3D body: height 7.5, standoff 0, extent 35.027,-19.812 36.094,-19.787
3D body: height 7, standoff 0, extent 35.027,-19.837 36.094,-19.786
3D body: height 8, standoff 7.5, extent 33.528,-21.336 34.029,-19.304
3D body: height 7.5, standoff 0, extent 33.528,-23.393 33.554,-22.327
3D body: height 7.5, standoff 0, extent 32.487,-23.393 33.554,-23.368
3D body: height 8, standoff 7.5, extent 32.004,-23.868 34.036,-23.368
3D body: height 8, standoff 7.5, extent 33.528,-23.876 34.029,-21.844
3D body: height 8, standoff 7.5, extent 32.004,-22.352 34.036,-21.851
3D body: height 8, standoff 7.5, extent 32.012,-23.901 32.512,-21.869
3D body: height 8, standoff 0, extent 31.75,-21.869 34.29,-21.59
3D body: height 1, standoff 0, extent 32.385,-23.495 33.655,-22.225
3D body: height 7, standoff 0, extent 33.503,-23.393 33.554,-22.326
3D body: height 7, standoff 0, extent 32.487,-23.393 33.554,-23.342
3D body: height 7, standoff 0, extent 32.487,-23.393 32.538,-22.326
3D body: height 8, standoff 0, extent 31.75,-24.13 32.03,-21.59
3D body: height 0, standoff -3, extent 32.766,-22.987 33.274,-22.733
3D body: height 8, standoff 0, extent 34.011,-24.13 34.29,-21.59
3D body: height 8, standoff 0, extent 31.75,-24.13 34.29,-23.851
3D body: height 7.5, standoff 0, extent 32.487,-23.393 32.512,-22.327
3D body: height 7.5, standoff 0, extent 32.487,-22.352 33.554,-22.327
3D body: height 7, standoff 0, extent 32.487,-22.377 33.554,-22.326
3D body: height 7.5, standoff 0, extent 33.528,-20.853 33.554,-19.787
3D body: height 7.5, standoff 0, extent 32.487,-20.853 33.554,-20.828
3D body: height 8, standoff 7.5, extent 32.004,-21.328 34.036,-20.828
3D body: height 8, standoff 7.5, extent 32.004,-19.812 34.036,-19.311
3D body: height 8, standoff 7.5, extent 32.012,-21.361 32.512,-19.329
3D body: height 8, standoff 0, extent 31.75,-19.329 34.29,-19.05
3D body: height 1, standoff 0, extent 32.385,-20.955 33.655,-19.685
3D body: height 7, standoff 0, extent 33.503,-20.853 33.554,-19.786
3D body: height 7, standoff 0, extent 32.487,-20.853 33.554,-20.802
3D body: height 7, standoff 0, extent 32.487,-20.853 32.538,-19.786
3D body: height 8, standoff 0, extent 31.75,-21.59 32.03,-19.05
3D body: height 0, standoff -3, extent 32.766,-20.447 33.274,-20.193
3D body: height 8, standoff 0, extent 34.011,-21.59 34.29,-19.05
3D body: height 8, standoff 0, extent 31.75,-21.59 34.29,-21.311
3D body: height 7.5, standoff 0, extent 32.487,-20.853 32.512,-19.787
3D body: height 7.5, standoff 0, extent 32.487,-19.812 33.554,-19.787
3D body: height 7, standoff 0, extent 32.487,-19.837 33.554,-19.786
3D body: height 8, standoff 7.5, extent 36.068,-16.256 36.569,-14.224
3D body: height 7.5, standoff 0, extent 36.068,-18.313 36.094,-17.247
3D body: height 7.5, standoff 0, extent 35.027,-18.313 36.093,-18.288
3D body: height 8, standoff 7.5, extent 34.544,-18.788 36.576,-18.288
3D body: height 8, standoff 7.5, extent 36.068,-18.796 36.569,-16.764
3D body: height 8, standoff 7.5, extent 34.544,-17.272 36.576,-16.771
3D body: height 8, standoff 7.5, extent 34.552,-18.821 35.052,-16.789
3D body: height 8, standoff 0, extent 34.29,-16.789 36.83,-16.51
3D body: height 1, standoff 0, extent 34.925,-18.415 36.195,-17.145
3D body: height 7, standoff 0, extent 36.043,-18.313 36.093,-17.246
3D body: height 7, standoff 0, extent 35.027,-18.313 36.093,-18.262
3D body: height 7, standoff 0, extent 35.027,-18.313 35.077,-17.246
3D body: height 8, standoff 0, extent 34.29,-19.05 34.57,-16.51
3D body: height 0, standoff -3, extent 35.306,-17.907 35.814,-17.653
3D body: height 8, standoff 0, extent 36.551,-19.05 36.83,-16.51
3D body: height 8, standoff 0, extent 34.29,-19.05 36.83,-18.77
3D body: height 7.5, standoff 0, extent 35.027,-18.313 35.052,-17.246
3D body: height 7.5, standoff 0, extent 35.027,-17.272 36.094,-17.246
3D body: height 7, standoff 0, extent 35.027,-17.297 36.093,-17.246
3D body: height 7.5, standoff 0, extent 36.068,-15.773 36.094,-14.707
3D body: height 7.5, standoff 0, extent 35.027,-15.773 36.093,-15.748
3D body: height 8, standoff 7.5, extent 34.544,-16.248 36.576,-15.748
3D body: height 8, standoff 7.5, extent 34.544,-14.732 36.576,-14.231
3D body: height 8, standoff 7.5, extent 34.552,-16.281 35.052,-14.249
3D body: height 8, standoff 0, extent 34.29,-14.249 36.83,-13.97
3D body: height 1, standoff 0, extent 34.925,-15.875 36.195,-14.605
3D body: height 7, standoff 0, extent 36.043,-15.773 36.093,-14.706
3D body: height 7, standoff 0, extent 35.027,-15.773 36.093,-15.722
3D body: height 7, standoff 0, extent 35.027,-15.773 35.077,-14.706
3D body: height 8, standoff 0, extent 34.29,-16.51 34.57,-13.97
3D body: height 0, standoff -3, extent 35.306,-15.367 35.814,-15.113
3D body: height 8, standoff 0, extent 36.551,-16.51 36.83,-13.97
3D body: height 8, standoff 0, extent 34.29,-16.51 36.83,-16.23
3D body: height 7.5, standoff 0, extent 35.027,-15.773 35.052,-14.706
3D body: height 7.5, standoff 0, extent 35.027,-14.732 36.094,-14.706
3D body: height 7, standoff 0, extent 35.027,-14.757 36.093,-14.706
3D body: height 8, standoff 7.5, extent 33.528,-16.256 34.029,-14.224
3D body: height 7.5, standoff 0, extent 33.528,-18.313 33.554,-17.247
3D body: height 7.5, standoff 0, extent 32.487,-18.313 33.553,-18.288
3D body: height 8, standoff 7.5, extent 32.004,-18.788 34.036,-18.288
3D body: height 8, standoff 7.5, extent 33.528,-18.796 34.029,-16.764
3D body: height 8, standoff 7.5, extent 32.004,-17.272 34.036,-16.771
3D body: height 8, standoff 7.5, extent 32.012,-18.821 32.512,-16.789
3D body: height 8, standoff 0, extent 31.75,-16.789 34.29,-16.51
3D body: height 1, standoff 0, extent 32.385,-18.415 33.655,-17.145
3D body: height 7, standoff 0, extent 33.503,-18.313 33.553,-17.246
3D body: height 7, standoff 0, extent 32.487,-18.313 33.553,-18.262
3D body: height 7, standoff 0, extent 32.487,-18.313 32.537,-17.246
3D body: height 8, standoff 0, extent 31.75,-19.05 32.03,-16.51
3D body: height 0, standoff -3, extent 32.766,-17.907 33.274,-17.653
3D body: height 8, standoff 0, extent 34.011,-19.05 34.29,-16.51
3D body: height 8, standoff 0, extent 31.75,-19.05 34.29,-18.77
3D body: height 7.5, standoff 0, extent 32.487,-18.313 32.512,-17.246
3D body: height 7.5, standoff 0, extent 32.487,-17.272 33.554,-17.246
3D body: height 7, standoff 0, extent 32.487,-17.297 33.553,-17.246
3D body: height 7.5, standoff 0, extent 33.528,-15.773 33.554,-14.707
3D body: height 7.5, standoff 0, extent 32.487,-15.773 33.553,-15.748
3D body: height 8, standoff 7.5, extent 32.004,-16.248 34.036,-15.748
3D body: height 8, standoff 7.5, extent 32.004,-14.732 34.036,-14.231
3D body: height 8, standoff 7.5, extent 32.012,-16.281 32.512,-14.249
3D body: height 8, standoff 0, extent 31.75,-14.249 34.29,-13.97
3D body: height 1, standoff 0, extent 32.385,-15.875 33.655,-14.605
3D body: height 7, standoff 0, extent 33.503,-15.773 33.553,-14.706
3D body: height 7, standoff 0, extent 32.487,-15.773 33.553,-15.722
3D body: height 7, standoff 0, extent 32.487,-15.773 32.537,-14.706
3D body: height 8, standoff 0, extent 31.75,-16.51 32.03,-13.97
3D body: height 0, standoff -3, extent 32.766,-15.367 33.274,-15.113
3D body: height 8, standoff 0, extent 34.011,-16.51 34.29,-13.97
3D body: height 8, standoff 0, extent 31.75,-16.51 34.29,-16.23
3D body: height 7.5, standoff 0, extent 32.487,-15.773 32.512,-14.706
3D body: height 7.5, standoff 0, extent 32.487,-14.732 33.554,-14.706
3D body: height 7, standoff 0, extent 32.487,-14.757 33.553,-14.706
3D body: height 7.5, standoff 0, extent 36.068,-13.233 36.094,-12.167
3D body: height 7.5, standoff 0, extent 35.027,-13.233 36.094,-13.208
3D body: height 8, standoff 7.5, extent 34.544,-13.708 36.576,-13.208
3D body: height 8, standoff 7.5, extent 36.068,-13.716 36.569,-11.684
3D body: height 8, standoff 7.5, extent 34.544,-12.192 36.576,-11.691
3D body: height 8, standoff 7.5, extent 34.552,-13.741 35.052,-11.709
3D body: height 8, standoff 0, extent 34.29,-11.709 36.83,-11.43
3D body: height 1, standoff 0, extent 34.925,-13.335 36.195,-12.065
3D body: height 7, standoff 0, extent 36.043,-13.233 36.094,-12.166
3D body: height 7, standoff 0, extent 35.027,-13.233 36.094,-13.182
3D body: height 7, standoff 0, extent 35.027,-13.233 35.078,-12.166
3D body: height 8, standoff 0, extent 34.29,-13.97 34.57,-11.43
3D body: height 0, standoff -3, extent 35.306,-12.827 35.814,-12.573
3D body: height 8, standoff 0, extent 36.551,-13.97 36.83,-11.43
3D body: height 8, standoff 0, extent 34.29,-13.97 36.83,-13.691
3D body: height 7.5, standoff 0, extent 35.027,-13.233 35.052,-12.167
3D body: height 7.5, standoff 0, extent 35.027,-12.192 36.094,-12.167
3D body: height 7, standoff 0, extent 35.027,-12.217 36.094,-12.166
3D body: height 7.5, standoff 0, extent 33.528,-13.233 33.554,-12.167
3D body: height 7.5, standoff 0, extent 32.487,-13.233 33.554,-13.208
3D body: height 8, standoff 7.5, extent 32.004,-13.708 34.036,-13.208
3D body: height 8, standoff 7.5, extent 33.528,-13.716 34.029,-11.684
3D body: height 8, standoff 7.5, extent 32.004,-12.192 34.036,-11.691
3D body: height 8, standoff 7.5, extent 32.012,-13.741 32.512,-11.709
3D body: height 8, standoff 0, extent 31.75,-11.709 34.29,-11.43
3D body: height 1, standoff 0, extent 32.385,-13.335 33.655,-12.065
3D body: height 7, standoff 0, extent 33.503,-13.233 33.554,-12.166
3D body: height 7, standoff 0, extent 32.487,-13.233 33.554,-13.182
3D body: height 7, standoff 0, extent 32.487,-13.233 32.538,-12.166
3D body: height 8, standoff 0, extent 31.75,-13.97 32.03,-11.43
3D body: height 0, standoff -3, extent 32.766,-12.827 33.274,-12.573
3D body: height 8, standoff 0, extent 34.011,-13.97 34.29,-11.43
3D body: height 8, standoff 0, extent 31.75,-13.97 34.29,-13.691
3D body: height 7.5, standoff 0, extent 32.487,-13.233 32.512,-12.167
3D body: height 7.5, standoff 0, extent 32.487,-12.192 33.554,-12.167
3D body: height 7, standoff 0, extent 32.487,-12.217 33.554,-12.166
3D body: height 8, standoff 7.5, extent 3.048,-51.816 3.549,-49.784
3D body: height 7.5, standoff 0, extent 3.048,-51.333 3.073,-50.267
3D body: height 7.5, standoff 0, extent 2.007,-51.333 3.073,-51.308
3D body: height 8, standoff 7.5, extent 1.524,-51.808 3.556,-51.308
3D body: height 8, standoff 7.5, extent 1.524,-50.292 3.556,-49.791
3D body: height 8, standoff 7.5, extent 1.532,-51.841 2.032,-49.809
3D body: height 8, standoff 0, extent 1.27,-49.809 3.81,-49.53
3D body: height 1, standoff 0, extent 1.905,-51.435 3.175,-50.165
3D body: height 7, standoff 0, extent 3.023,-51.333 3.073,-50.266
3D body: height 7, standoff 0, extent 2.007,-51.333 3.073,-51.282
3D body: height 7, standoff 0, extent 2.007,-51.333 2.057,-50.266
3D body: height 8, standoff 0, extent 1.27,-52.07 1.549,-49.53
3D body: height 0, standoff -3, extent 2.286,-50.927 2.794,-50.673
3D body: height 8, standoff 0, extent 3.531,-52.07 3.81,-49.53
3D body: height 8, standoff 0, extent 1.27,-52.07 3.81,-51.791
3D body: height 7.5, standoff 0, extent 2.007,-51.333 2.032,-50.267
3D body: height 7.5, standoff 0, extent 2.007,-50.292 3.074,-50.267
3D body: height 7, standoff 0, extent 2.007,-50.317 3.073,-50.266
3D body: height 8, standoff 7.5, extent 0.508,-51.816 1.009,-49.784
3D body: height 7.5, standoff 0, extent 0.508,-51.333 0.533,-50.267
3D body: height 7.5, standoff 0, extent -0.533,-51.333 0.533,-51.308
3D body: height 8, standoff 7.5, extent -1.016,-51.808 1.016,-51.308
3D body: height 8, standoff 7.5, extent -1.016,-50.292 1.016,-49.791
3D body: height 8, standoff 7.5, extent -1.008,-51.841 -0.508,-49.809
3D body: height 8, standoff 0, extent -1.27,-49.809 1.27,-49.53
3D body: height 1, standoff 0, extent -0.635,-51.435 0.635,-50.165
3D body: height 7, standoff 0, extent 0.483,-51.333 0.533,-50.266
3D body: height 7, standoff 0, extent -0.533,-51.333 0.533,-51.282
3D body: height 7, standoff 0, extent -0.533,-51.333 -0.483,-50.266
3D body: height 8, standoff 0, extent -1.27,-52.07 -0.991,-49.53
3D body: height 0, standoff -3, extent -0.254,-50.927 0.254,-50.673
3D body: height 8, standoff 0, extent 0.991,-52.07 1.27,-49.53
3D body: height 8, standoff 0, extent -1.27,-52.07 1.27,-51.791
3D body: height 7.5, standoff 0, extent -0.533,-51.333 -0.508,-50.267
3D body: height 7.5, standoff 0, extent -0.533,-50.292 0.534,-50.267
3D body: height 7, standoff 0, extent -0.533,-50.317 0.533,-50.266
3D body: height 8, standoff 7.5, extent 3.048,-46.736 3.549,-44.704
3D body: height 7.5, standoff 0, extent 3.048,-48.793 3.073,-47.727
3D body: height 7.5, standoff 0, extent 2.007,-48.793 3.073,-48.768
3D body: height 8, standoff 7.5, extent 1.524,-49.268 3.556,-48.768
3D body: height 8, standoff 7.5, extent 3.048,-49.276 3.549,-47.244
3D body: height 8, standoff 7.5, extent 1.524,-47.752 3.556,-47.251
3D body: height 8, standoff 7.5, extent 1.532,-49.301 2.032,-47.269
3D body: height 8, standoff 0, extent 1.27,-47.269 3.81,-46.99
3D body: height 1, standoff 0, extent 1.905,-48.895 3.175,-47.625
3D body: height 7, standoff 0, extent 3.023,-48.793 3.073,-47.726
3D body: height 7, standoff 0, extent 2.007,-48.793 3.073,-48.742
3D body: height 7, standoff 0, extent 2.007,-48.793 2.057,-47.726
3D body: height 8, standoff 0, extent 1.27,-49.53 1.549,-46.99
3D body: height 0, standoff -3, extent 2.286,-48.387 2.794,-48.133
3D body: height 8, standoff 0, extent 3.531,-49.53 3.81,-46.99
3D body: height 8, standoff 0, extent 1.27,-49.53 3.81,-49.251
3D body: height 7.5, standoff 0, extent 2.007,-48.793 2.032,-47.727
3D body: height 7.5, standoff 0, extent 2.007,-47.752 3.074,-47.727
3D body: height 7, standoff 0, extent 2.007,-47.777 3.073,-47.726
3D body: height 7.5, standoff 0, extent 3.048,-46.253 3.073,-45.187
3D body: height 7.5, standoff 0, extent 2.007,-46.253 3.073,-46.228
3D body: height 8, standoff 7.5, extent 1.524,-46.728 3.556,-46.228
3D body: height 8, standoff 7.5, extent 1.524,-45.212 3.556,-44.711
3D body: height 8, standoff 7.5, extent 1.532,-46.761 2.032,-44.729
3D body: height 8, standoff 0, extent 1.27,-44.729 3.81,-44.45
3D body: height 1, standoff 0, extent 1.905,-46.355 3.175,-45.085
3D body: height 7, standoff 0, extent 3.023,-46.253 3.073,-45.186
3D body: height 7, standoff 0, extent 2.007,-46.253 3.073,-46.202
3D body: height 7, standoff 0, extent 2.007,-46.253 2.057,-45.186
3D body: height 8, standoff 0, extent 1.27,-46.99 1.549,-44.45
3D body: height 0, standoff -3, extent 2.286,-45.847 2.794,-45.593
3D body: height 8, standoff 0, extent 3.531,-46.99 3.81,-44.45
3D body: height 8, standoff 0, extent 1.27,-46.99 3.81,-46.711
3D body: height 7.5, standoff 0, extent 2.007,-46.253 2.032,-45.187
3D body: height 7.5, standoff 0, extent 2.007,-45.212 3.074,-45.187
3D body: height 7, standoff 0, extent 2.007,-45.237 3.073,-45.186
3D body: height 8, standoff 7.5, extent 0.508,-46.736 1.009,-44.704
3D body: height 7.5, standoff 0, extent 0.508,-48.793 0.533,-47.727
3D body: height 7.5, standoff 0, extent -0.533,-48.793 0.533,-48.768
3D body: height 8, standoff 7.5, extent -1.016,-49.268 1.016,-48.768
3D body: height 8, standoff 7.5, extent 0.508,-49.276 1.009,-47.244
3D body: height 8, standoff 7.5, extent -1.016,-47.752 1.016,-47.251
3D body: height 8, standoff 7.5, extent -1.008,-49.301 -0.508,-47.269
3D body: height 8, standoff 0, extent -1.27,-47.269 1.27,-46.99
3D body: height 1, standoff 0, extent -0.635,-48.895 0.635,-47.625
3D body: height 7, standoff 0, extent 0.483,-48.793 0.533,-47.726
3D body: height 7, standoff 0, extent -0.533,-48.793 0.533,-48.742
3D body: height 7, standoff 0, extent -0.533,-48.793 -0.483,-47.726
3D body: height 8, standoff 0, extent -1.27,-49.53 -0.991,-46.99
3D body: height 0, standoff -3, extent -0.254,-48.387 0.254,-48.133
3D body: height 8, standoff 0, extent 0.991,-49.53 1.27,-46.99
3D body: height 8, standoff 0, extent -1.27,-49.53 1.27,-49.251
3D body: height 7.5, standoff 0, extent -0.533,-48.793 -0.508,-47.727
3D body: height 7.5, standoff 0, extent -0.533,-47.752 0.534,-47.727
3D body: height 7, standoff 0, extent -0.533,-47.777 0.533,-47.726
3D body: height 7.5, standoff 0, extent 0.508,-46.253 0.533,-45.187
3D body: height 7.5, standoff 0, extent -0.533,-46.253 0.533,-46.228
3D body: height 8, standoff 7.5, extent -1.016,-46.728 1.016,-46.228
3D body: height 8, standoff 7.5, extent -1.016,-45.212 1.016,-44.711
3D body: height 8, standoff 7.5, extent -1.008,-46.761 -0.508,-44.729
3D body: height 8, standoff 0, extent -1.27,-44.729 1.27,-44.45
3D body: height 1, standoff 0, extent -0.635,-46.355 0.635,-45.085
3D body: height 7, standoff 0, extent 0.483,-46.253 0.533,-45.186
3D body: height 7, standoff 0, extent -0.533,-46.253 0.533,-46.202
3D body: height 7, standoff 0, extent -0.533,-46.253 -0.483,-45.186
3D body: height 8, standoff 0, extent -1.27,-46.99 -0.991,-44.45
3D body: height 0, standoff -3, extent -0.254,-45.847 0.254,-45.593
3D body: height 8, standoff 0, extent 0.991,-46.99 1.27,-44.45
3D body: height 8, standoff 0, extent -1.27,-46.99 1.27,-46.711
3D body: height 7.5, standoff 0, extent -0.533,-46.253 -0.508,-45.187
3D body: height 7.5, standoff 0, extent -0.533,-45.212 0.534,-45.187
3D body: height 7, standoff 0, extent -0.533,-45.237 0.533,-45.186
3D body: height 8, standoff 7.5, extent 3.048,-41.656 3.549,-39.624
3D body: height 7.5, standoff 0, extent 3.048,-43.713 3.074,-42.647
3D body: height 7.5, standoff 0, extent 2.007,-43.713 3.073,-43.688
3D body: height 8, standoff 7.5, extent 1.524,-44.188 3.556,-43.688
3D body: height 8, standoff 7.5, extent 3.048,-44.196 3.549,-42.164
3D body: height 8, standoff 7.5, extent 1.524,-42.672 3.556,-42.172
3D body: height 8, standoff 7.5, extent 1.532,-44.221 2.032,-42.189
3D body: height 8, standoff 0, extent 1.27,-42.189 3.81,-41.91
3D body: height 1, standoff 0, extent 1.905,-43.815 3.175,-42.545
3D body: height 7, standoff 0, extent 3.023,-43.713 3.073,-42.647
3D body: height 7, standoff 0, extent 2.007,-43.713 3.073,-43.663
3D body: height 7, standoff 0, extent 2.007,-43.713 2.057,-42.647
3D body: height 8, standoff 0, extent 1.27,-44.45 1.55,-41.91
3D body: height 0, standoff -3, extent 2.286,-43.307 2.794,-43.053
3D body: height 8, standoff 0, extent 3.531,-44.45 3.81,-41.91
3D body: height 8, standoff 0, extent 1.27,-44.45 3.81,-44.171
3D body: height 7.5, standoff 0, extent 2.007,-43.713 2.032,-42.647
3D body: height 7.5, standoff 0, extent 2.007,-42.672 3.074,-42.647
3D body: height 7, standoff 0, extent 2.007,-42.697 3.073,-42.646
3D body: height 7.5, standoff 0, extent 3.048,-41.173 3.074,-40.107
3D body: height 7.5, standoff 0, extent 2.007,-41.173 3.073,-41.148
3D body: height 8, standoff 7.5, extent 1.524,-41.648 3.556,-41.148
3D body: height 8, standoff 7.5, extent 1.524,-40.132 3.556,-39.632
3D body: height 8, standoff 7.5, extent 1.532,-41.681 2.032,-39.649
3D body: height 8, standoff 0, extent 1.27,-39.649 3.81,-39.37
3D body: height 1, standoff 0, extent 1.905,-41.275 3.175,-40.005
3D body: height 7, standoff 0, extent 3.023,-41.173 3.073,-40.107
3D body: height 7, standoff 0, extent 2.007,-41.173 3.073,-41.123
3D body: height 7, standoff 0, extent 2.007,-41.173 2.057,-40.107
3D body: height 8, standoff 0, extent 1.27,-41.91 1.55,-39.37
3D body: height 0, standoff -3, extent 2.286,-40.767 2.794,-40.513
3D body: height 8, standoff 0, extent 3.531,-41.91 3.81,-39.37
3D body: height 8, standoff 0, extent 1.27,-41.91 3.81,-41.631
3D body: height 7.5, standoff 0, extent 2.007,-41.173 2.032,-40.107
3D body: height 7.5, standoff 0, extent 2.007,-40.132 3.074,-40.107
3D body: height 7, standoff 0, extent 2.007,-40.157 3.073,-40.106
3D body: height 8, standoff 7.5, extent 0.508,-41.656 1.009,-39.624
3D body: height 7.5, standoff 0, extent 0.508,-43.713 0.534,-42.647
3D body: height 7.5, standoff 0, extent -0.533,-43.713 0.533,-43.688
3D body: height 8, standoff 7.5, extent -1.016,-44.188 1.016,-43.688
3D body: height 8, standoff 7.5, extent 0.508,-44.196 1.009,-42.164
3D body: height 8, standoff 7.5, extent -1.016,-42.672 1.016,-42.172
3D body: height 8, standoff 7.5, extent -1.008,-44.221 -0.508,-42.189
3D body: height 8, standoff 0, extent -1.27,-42.189 1.27,-41.91
3D body: height 1, standoff 0, extent -0.635,-43.815 0.635,-42.545
3D body: height 7, standoff 0, extent 0.483,-43.713 0.533,-42.647
3D body: height 7, standoff 0, extent -0.533,-43.713 0.533,-43.663
3D body: height 7, standoff 0, extent -0.533,-43.713 -0.483,-42.647
3D body: height 8, standoff 0, extent -1.27,-44.45 -0.99,-41.91
3D body: height 0, standoff -3, extent -0.254,-43.307 0.254,-43.053
3D body: height 8, standoff 0, extent 0.991,-44.45 1.27,-41.91
3D body: height 8, standoff 0, extent -1.27,-44.45 1.27,-44.171
3D body: height 7.5, standoff 0, extent -0.533,-43.713 -0.508,-42.647
3D body: height 7.5, standoff 0, extent -0.533,-42.672 0.534,-42.647
3D body: height 7, standoff 0, extent -0.533,-42.697 0.533,-42.646
3D body: height 7.5, standoff 0, extent 0.508,-41.173 0.534,-40.107
3D body: height 7.5, standoff 0, extent -0.533,-41.173 0.533,-41.148
3D body: height 8, standoff 7.5, extent -1.016,-41.648 1.016,-41.148
3D body: height 8, standoff 7.5, extent -1.016,-40.132 1.016,-39.632
3D body: height 8, standoff 7.5, extent -1.008,-41.681 -0.508,-39.649
3D body: height 8, standoff 0, extent -1.27,-39.649 1.27,-39.37
3D body: height 1, standoff 0, extent -0.635,-41.275 0.635,-40.005
3D body: height 7, standoff 0, extent 0.483,-41.173 0.533,-40.107
3D body: height 7, standoff 0, extent -0.533,-41.173 0.533,-41.123
3D body: height 7, standoff 0, extent -0.533,-41.173 -0.483,-40.107
3D body: height 8, standoff 0, extent -1.27,-41.91 -0.99,-39.37
3D body: height 0, standoff -3, extent -0.254,-40.767 0.254,-40.513
3D body: height 8, standoff 0, extent 0.991,-41.91 1.27,-39.37
3D body: height 8, standoff 0, extent -1.27,-41.91 1.27,-41.631
3D body: height 7.5, standoff 0, extent -0.533,-41.173 -0.508,-40.107
3D body: height 7.5, standoff 0, extent -0.533,-40.132 0.534,-40.107
3D body: height 7, standoff 0, extent -0.533,-40.157 0.533,-40.106
3D body: height 8, standoff 7.5, extent 3.048,-36.576 3.548,-34.544
3D body: height 7.5, standoff 0, extent 3.048,-38.633 3.073,-37.567
3D body: height 7.5, standoff 0, extent 2.007,-38.633 3.073,-38.608
3D body: height 8, standoff 7.5, extent 1.524,-39.108 3.556,-38.608
3D body: height 8, standoff 7.5, extent 3.048,-39.116 3.548,-37.084
3D body: height 8, standoff 7.5, extent 1.524,-37.592 3.556,-37.091
3D body: height 8, standoff 7.5, extent 1.532,-39.141 2.032,-37.109
3D body: height 8, standoff 0, extent 1.27,-37.109 3.81,-36.83
3D body: height 1, standoff 0, extent 1.905,-38.735 3.175,-37.465
3D body: height 7, standoff 0, extent 3.022,-38.633 3.073,-37.566
3D body: height 7, standoff 0, extent 2.006,-38.633 3.073,-38.582
3D body: height 7, standoff 0, extent 2.006,-38.633 2.057,-37.566
3D body: height 8, standoff 0, extent 1.27,-39.37 1.549,-36.83
3D body: height 0, standoff -3, extent 2.286,-38.227 2.794,-37.973
3D body: height 8, standoff 0, extent 3.531,-39.37 3.81,-36.83
3D body: height 8, standoff 0, extent 1.27,-39.37 3.81,-39.09
3D body: height 7.5, standoff 0, extent 2.007,-38.633 2.032,-37.566
3D body: height 7.5, standoff 0, extent 2.007,-37.592 3.073,-37.566
3D body: height 7, standoff 0, extent 2.007,-37.617 3.073,-37.566
3D body: height 7.5, standoff 0, extent 3.048,-36.093 3.073,-35.027
3D body: height 7.5, standoff 0, extent 2.007,-36.093 3.073,-36.068
3D body: height 8, standoff 7.5, extent 1.524,-36.568 3.556,-36.068
3D body: height 8, standoff 7.5, extent 1.524,-35.052 3.556,-34.551
3D body: height 8, standoff 7.5, extent 1.532,-36.601 2.032,-34.569
3D body: height 8, standoff 0, extent 1.27,-34.569 3.81,-34.29
3D body: height 1, standoff 0, extent 1.905,-36.195 3.175,-34.925
3D body: height 7, standoff 0, extent 3.022,-36.093 3.073,-35.026
3D body: height 7, standoff 0, extent 2.006,-36.093 3.073,-36.042
3D body: height 7, standoff 0, extent 2.006,-36.093 2.057,-35.026
3D body: height 8, standoff 0, extent 1.27,-36.83 1.549,-34.29
3D body: height 0, standoff -3, extent 2.286,-35.687 2.794,-35.433
3D body: height 8, standoff 0, extent 3.531,-36.83 3.81,-34.29
3D body: height 8, standoff 0, extent 1.27,-36.83 3.81,-36.55
3D body: height 7.5, standoff 0, extent 2.007,-36.093 2.032,-35.026
3D body: height 7.5, standoff 0, extent 2.007,-35.052 3.073,-35.026
3D body: height 7, standoff 0, extent 2.007,-35.077 3.073,-35.026
3D body: height 8, standoff 7.5, extent 0.508,-36.576 1.008,-34.544
3D body: height 7.5, standoff 0, extent 0.508,-38.633 0.533,-37.567
3D body: height 7.5, standoff 0, extent -0.533,-38.633 0.533,-38.608
3D body: height 8, standoff 7.5, extent -1.016,-39.108 1.016,-38.608
3D body: height 8, standoff 7.5, extent 0.508,-39.116 1.008,-37.084
3D body: height 8, standoff 7.5, extent -1.016,-37.592 1.016,-37.091
3D body: height 8, standoff 7.5, extent -1.008,-39.141 -0.508,-37.109
3D body: height 8, standoff 0, extent -1.27,-37.109 1.27,-36.83
3D body: height 1, standoff 0, extent -0.635,-38.735 0.635,-37.465
3D body: height 7, standoff 0, extent 0.482,-38.633 0.533,-37.566
3D body: height 7, standoff 0, extent -0.534,-38.633 0.533,-38.582
3D body: height 7, standoff 0, extent -0.534,-38.633 -0.483,-37.566
3D body: height 8, standoff 0, extent -1.27,-39.37 -0.991,-36.83
3D body: height 0, standoff -3, extent -0.254,-38.227 0.254,-37.973
3D body: height 8, standoff 0, extent 0.991,-39.37 1.27,-36.83
3D body: height 8, standoff 0, extent -1.27,-39.37 1.27,-39.09
3D body: height 7.5, standoff 0, extent -0.533,-38.633 -0.508,-37.566
3D body: height 7.5, standoff 0, extent -0.533,-37.592 0.533,-37.566
3D body: height 7, standoff 0, extent -0.533,-37.617 0.533,-37.566
3D body: height 7.5, standoff 0, extent 0.508,-36.093 0.533,-35.027
3D body: height 7.5, standoff 0, extent -0.533,-36.093 0.533,-36.068
3D body: height 8, standoff 7.5, extent -1.016,-36.568 1.016,-36.068
3D body: height 8, standoff 7.5, extent -1.016,-35.052 1.016,-34.551
3D body: height 8, standoff 7.5, extent -1.008,-36.601 -0.508,-34.569
3D body: height 8, standoff 0, extent -1.27,-34.569 1.27,-34.29
3D body: height 1, standoff 0, extent -0.635,-36.195 0.635,-34.925
3D body: height 7, standoff 0, extent 0.482,-36.093 0.533,-35.026
3D body: height 7, standoff 0, extent -0.534,-36.093 0.533,-36.042
3D body: height 7, standoff 0, extent -0.534,-36.093 -0.483,-35.026
3D body: height 8, standoff 0, extent -1.27,-36.83 -0.991,-34.29
3D body: height 0, standoff -3, extent -0.254,-35.687 0.254,-35.433
3D body: height 8, standoff 0, extent 0.991,-36.83 1.27,-34.29
3D body: height 8, standoff 0, extent -1.27,-36.83 1.27,-36.55
3D body: height 7.5, standoff 0, extent -0.533,-36.093 -0.508,-35.026
3D body: height 7.5, standoff 0, extent -0.533,-35.052 0.533,-35.026
3D body: height 7, standoff 0, extent -0.533,-35.077 0.533,-35.026
3D body: height 8, standoff 7.5, extent 3.048,-31.496 3.549,-29.464
3D body: height 7.5, standoff 0, extent 3.048,-33.553 3.073,-32.487
3D body: height 7.5, standoff 0, extent 2.007,-33.553 3.073,-33.528
3D body: height 8, standoff 7.5, extent 1.524,-34.028 3.556,-33.528
3D body: height 8, standoff 7.5, extent 3.048,-34.036 3.549,-32.004
3D body: height 8, standoff 7.5, extent 1.524,-32.512 3.556,-32.011
3D body: height 8, standoff 7.5, extent 1.532,-34.061 2.032,-32.029
3D body: height 8, standoff 0, extent 1.27,-32.029 3.81,-31.75
3D body: height 1, standoff 0, extent 1.905,-33.655 3.175,-32.385
3D body: height 7, standoff 0, extent 3.023,-33.553 3.073,-32.486
3D body: height 7, standoff 0, extent 2.007,-33.553 3.073,-33.502
3D body: height 7, standoff 0, extent 2.007,-33.553 2.057,-32.486
3D body: height 8, standoff 0, extent 1.27,-34.29 1.549,-31.75
3D body: height 0, standoff -3, extent 2.286,-33.147 2.794,-32.893
3D body: height 8, standoff 0, extent 3.531,-34.29 3.81,-31.75
3D body: height 8, standoff 0, extent 1.27,-34.29 3.81,-34.011
3D body: height 7.5, standoff 0, extent 2.007,-33.553 2.032,-32.487
3D body: height 7.5, standoff 0, extent 2.007,-32.512 3.074,-32.487
3D body: height 7, standoff 0, extent 2.007,-32.537 3.073,-32.486
3D body: height 7.5, standoff 0, extent 3.048,-31.013 3.073,-29.947
3D body: height 7.5, standoff 0, extent 2.007,-31.013 3.073,-30.988
3D body: height 8, standoff 7.5, extent 1.524,-31.488 3.556,-30.988
3D body: height 8, standoff 7.5, extent 1.524,-29.972 3.556,-29.471
3D body: height 8, standoff 7.5, extent 1.532,-31.521 2.032,-29.489
3D body: height 8, standoff 0, extent 1.27,-29.489 3.81,-29.21
3D body: height 1, standoff 0, extent 1.905,-31.115 3.175,-29.845
3D body: height 7, standoff 0, extent 3.023,-31.013 3.073,-29.946
3D body: height 7, standoff 0, extent 2.007,-31.013 3.073,-30.962
3D body: height 7, standoff 0, extent 2.007,-31.013 2.057,-29.946
3D body: height 8, standoff 0, extent 1.27,-31.75 1.549,-29.21
3D body: height 0, standoff -3, extent 2.286,-30.607 2.794,-30.353
3D body: height 8, standoff 0, extent 3.531,-31.75 3.81,-29.21
3D body: height 8, standoff 0, extent 1.27,-31.75 3.81,-31.471
3D body: height 7.5, standoff 0, extent 2.007,-31.013 2.032,-29.947
3D body: height 7.5, standoff 0, extent 2.007,-29.972 3.074,-29.947
3D body: height 7, standoff 0, extent 2.007,-29.997 3.073,-29.946
3D body: height 8, standoff 7.5, extent 0.508,-31.496 1.009,-29.464
3D body: height 7.5, standoff 0, extent 0.508,-33.553 0.533,-32.487
3D body: height 7.5, standoff 0, extent -0.533,-33.553 0.533,-33.528
3D body: height 8, standoff 7.5, extent -1.016,-34.028 1.016,-33.528
3D body: height 8, standoff 7.5, extent 0.508,-34.036 1.009,-32.004
3D body: height 8, standoff 7.5, extent -1.016,-32.512 1.016,-32.011
3D body: height 8, standoff 7.5, extent -1.008,-34.061 -0.508,-32.029
3D body: height 8, standoff 0, extent -1.27,-32.029 1.27,-31.75
3D body: height 1, standoff 0, extent -0.635,-33.655 0.635,-32.385
3D body: height 7, standoff 0, extent 0.483,-33.553 0.533,-32.486
3D body: height 7, standoff 0, extent -0.533,-33.553 0.533,-33.502
3D body: height 7, standoff 0, extent -0.533,-33.553 -0.483,-32.486
3D body: height 8, standoff 0, extent -1.27,-34.29 -0.991,-31.75
3D body: height 0, standoff -3, extent -0.254,-33.147 0.254,-32.893
3D body: height 8, standoff 0, extent 0.991,-34.29 1.27,-31.75
3D body: height 8, standoff 0, extent -1.27,-34.29 1.27,-34.011
3D body: height 7.5, standoff 0, extent -0.533,-33.553 -0.508,-32.487
3D body: height 7.5, standoff 0, extent -0.533,-32.512 0.534,-32.487
3D body: height 7, standoff 0, extent -0.533,-32.537 0.533,-32.486
3D body: height 7.5, standoff 0, extent 0.508,-31.013 0.533,-29.947
3D body: height 7.5, standoff 0, extent -0.533,-31.013 0.533,-30.988
3D body: height 8, standoff 7.5, extent -1.016,-31.488 1.016,-30.988
3D body: height 8, standoff 7.5, extent -1.016,-29.972 1.016,-29.471
3D body: height 8, standoff 7.5, extent -1.008,-31.521 -0.508,-29.489
3D body: height 8, standoff 0, extent -1.27,-29.489 1.27,-29.21
3D body: height 1, standoff 0, extent -0.635,-31.115 0.635,-29.845
3D body: height 7, standoff 0, extent 0.483,-31.013 0.533,-29.946
3D body: height 7, standoff 0, extent -0.533,-31.013 0.533,-30.962
3D body: height 7, standoff 0, extent -0.533,-31.013 -0.483,-29.946
3D body: height 8, standoff 0, extent -1.27,-31.75 -0.991,-29.21
3D body: height 0, standoff -3, extent -0.254,-30.607 0.254,-30.353
3D body: height 8, standoff 0, extent 0.991,-31.75 1.27,-29.21
3D body: height 8, standoff 0, extent -1.27,-31.75 1.27,-31.471
3D body: height 7.5, standoff 0, extent -0.533,-31.013 -0.508,-29.947
3D body: height 7.5, standoff 0, extent -0.533,-29.972 0.534,-29.947
3D body: height 7, standoff 0, extent -0.533,-29.997 0.533,-29.946
3D body: height 8, standoff 7.5, extent 3.048,-26.416 3.549,-24.384
3D body: height 7.5, standoff 0, extent 3.048,-28.473 3.073,-27.407
3D body: height 7.5, standoff 0, extent 2.007,-28.473 3.073,-28.448
3D body: height 8, standoff 7.5, extent 1.524,-28.948 3.556,-28.448
3D body: height 8, standoff 7.5, extent 3.048,-28.956 3.549,-26.924
3D body: height 8, standoff 7.5, extent 1.524,-27.432 3.556,-26.931
3D body: height 8, standoff 7.5, extent 1.532,-28.981 2.032,-26.949
3D body: height 8, standoff 0, extent 1.27,-26.949 3.81,-26.67
3D body: height 1, standoff 0, extent 1.905,-28.575 3.175,-27.305
3D body: height 7, standoff 0, extent 3.023,-28.473 3.073,-27.406
3D body: height 7, standoff 0, extent 2.007,-28.473 3.073,-28.422
3D body: height 7, standoff 0, extent 2.007,-28.473 2.057,-27.406
3D body: height 8, standoff 0, extent 1.27,-29.21 1.549,-26.67
3D body: height 0, standoff -3, extent 2.286,-28.067 2.794,-27.813
3D body: height 8, standoff 0, extent 3.531,-29.21 3.81,-26.67
3D body: height 8, standoff 0, extent 1.27,-29.21 3.81,-28.931
3D body: height 7.5, standoff 0, extent 2.007,-28.473 2.032,-27.407
3D body: height 7.5, standoff 0, extent 2.007,-27.432 3.074,-27.407
3D body: height 7, standoff 0, extent 2.007,-27.457 3.073,-27.406
3D body: height 7.5, standoff 0, extent 3.048,-25.933 3.073,-24.867
3D body: height 7.5, standoff 0, extent 2.007,-25.933 3.073,-25.908
3D body: height 8, standoff 7.5, extent 1.524,-26.408 3.556,-25.908
3D body: height 8, standoff 7.5, extent 1.524,-24.892 3.556,-24.391
3D body: height 8, standoff 7.5, extent 1.532,-26.441 2.032,-24.409
3D body: height 8, standoff 0, extent 1.27,-24.409 3.81,-24.13
3D body: height 1, standoff 0, extent 1.905,-26.035 3.175,-24.765
3D body: height 7, standoff 0, extent 3.023,-25.933 3.073,-24.866
3D body: height 7, standoff 0, extent 2.007,-25.933 3.073,-25.882
3D body: height 7, standoff 0, extent 2.007,-25.933 2.057,-24.866
3D body: height 8, standoff 0, extent 1.27,-26.67 1.549,-24.13
3D body: height 0, standoff -3, extent 2.286,-25.527 2.794,-25.273
3D body: height 8, standoff 0, extent 3.531,-26.67 3.81,-24.13
3D body: height 8, standoff 0, extent 1.27,-26.67 3.81,-26.391
3D body: height 7.5, standoff 0, extent 2.007,-25.933 2.032,-24.867
3D body: height 7.5, standoff 0, extent 2.007,-24.892 3.074,-24.867
3D body: height 7, standoff 0, extent 2.007,-24.917 3.073,-24.866
3D body: height 8, standoff 7.5, extent 0.508,-26.416 1.009,-24.384
3D body: height 7.5, standoff 0, extent 0.508,-28.473 0.533,-27.407
3D body: height 7.5, standoff 0, extent -0.533,-28.473 0.533,-28.448
3D body: height 8, standoff 7.5, extent -1.016,-28.948 1.016,-28.448
3D body: height 8, standoff 7.5, extent 0.508,-28.956 1.009,-26.924
3D body: height 8, standoff 7.5, extent -1.016,-27.432 1.016,-26.931
3D body: height 8, standoff 7.5, extent -1.008,-28.981 -0.508,-26.949
3D body: height 8, standoff 0, extent -1.27,-26.949 1.27,-26.67
3D body: height 1, standoff 0, extent -0.635,-28.575 0.635,-27.305
3D body: height 7, standoff 0, extent 0.483,-28.473 0.533,-27.406
3D body: height 7, standoff 0, extent -0.533,-28.473 0.533,-28.422
3D body: height 7, standoff 0, extent -0.533,-28.473 -0.483,-27.406
3D body: height 8, standoff 0, extent -1.27,-29.21 -0.991,-26.67
3D body: height 0, standoff -3, extent -0.254,-28.067 0.254,-27.813
3D body: height 8, standoff 0, extent 0.991,-29.21 1.27,-26.67
3D body: height 8, standoff 0, extent -1.27,-29.21 1.27,-28.931
3D body: height 7.5, standoff 0, extent -0.533,-28.473 -0.508,-27.407
3D body: height 7.5, standoff 0, extent -0.533,-27.432 0.534,-27.407
3D body: height 7, standoff 0, extent -0.533,-27.457 0.533,-27.406
3D body: height 7.5, standoff 0, extent 0.508,-25.933 0.533,-24.867
3D body: height 7.5, standoff 0, extent -0.533,-25.933 0.533,-25.908
3D body: height 8, standoff 7.5, extent -1.016,-26.408 1.016,-25.908
3D body: height 8, standoff 7.5, extent -1.016,-24.892 1.016,-24.391
3D body: height 8, standoff 7.5, extent -1.008,-26.441 -0.508,-24.409
3D body: height 8, standoff 0, extent -1.27,-24.409 1.27,-24.13
3D body: height 1, standoff 0, extent -0.635,-26.035 0.635,-24.765
3D body: height 7, standoff 0, extent 0.483,-25.933 0.533,-24.866
3D body: height 7, standoff 0, extent -0.533,-25.933 0.533,-25.882
3D body: height 7, standoff 0, extent -0.533,-25.933 -0.483,-24.866
3D body: height 8, standoff 0, extent -1.27,-26.67 -0.991,-24.13
3D body: height 0, standoff -3, extent -0.254,-25.527 0.254,-25.273
3D body: height 8, standoff 0, extent 0.991,-26.67 1.27,-24.13
3D body: height 8, standoff 0, extent -1.27,-26.67 1.27,-26.391
3D body: height 7.5, standoff 0, extent -0.533,-25.933 -0.508,-24.867
3D body: height 7.5, standoff 0, extent -0.533,-24.892 0.534,-24.867
3D body: height 7, standoff 0, extent -0.533,-24.917 0.533,-24.866
3D body: height 8, standoff 7.5, extent 3.048,-21.336 3.549,-19.304
3D body: height 7.5, standoff 0, extent 3.048,-23.393 3.074,-22.327
3D body: height 7.5, standoff 0, extent 2.007,-23.393 3.073,-23.368
3D body: height 8, standoff 7.5, extent 1.524,-23.868 3.556,-23.368
3D body: height 8, standoff 7.5, extent 3.048,-23.876 3.549,-21.844
3D body: height 8, standoff 7.5, extent 1.524,-22.352 3.556,-21.852
3D body: height 8, standoff 7.5, extent 1.532,-23.901 2.032,-21.869
3D body: height 8, standoff 0, extent 1.27,-21.869 3.81,-21.59
3D body: height 1, standoff 0, extent 1.905,-23.495 3.175,-22.225
3D body: height 7, standoff 0, extent 3.023,-23.393 3.073,-22.327
3D body: height 7, standoff 0, extent 2.007,-23.393 3.073,-23.343
3D body: height 7, standoff 0, extent 2.007,-23.393 2.057,-22.327
3D body: height 8, standoff 0, extent 1.27,-24.13 1.55,-21.59
3D body: height 0, standoff -3, extent 2.286,-22.987 2.794,-22.733
3D body: height 8, standoff 0, extent 3.531,-24.13 3.81,-21.59
3D body: height 8, standoff 0, extent 1.27,-24.13 3.81,-23.851
3D body: height 7.5, standoff 0, extent 2.007,-23.393 2.032,-22.327
3D body: height 7.5, standoff 0, extent 2.007,-22.352 3.074,-22.327
3D body: height 7, standoff 0, extent 2.007,-22.377 3.073,-22.326
3D body: height 7.5, standoff 0, extent 3.048,-20.853 3.074,-19.787
3D body: height 7.5, standoff 0, extent 2.007,-20.853 3.073,-20.828
3D body: height 8, standoff 7.5, extent 1.524,-21.328 3.556,-20.828
3D body: height 8, standoff 7.5, extent 1.524,-19.812 3.556,-19.312
3D body: height 8, standoff 7.5, extent 1.532,-21.361 2.032,-19.329
3D body: height 8, standoff 0, extent 1.27,-19.329 3.81,-19.05
3D body: height 1, standoff 0, extent 1.905,-20.955 3.175,-19.685
3D body: height 7, standoff 0, extent 3.023,-20.853 3.073,-19.787
3D body: height 7, standoff 0, extent 2.007,-20.853 3.073,-20.803
3D body: height 7, standoff 0, extent 2.007,-20.853 2.057,-19.787
3D body: height 8, standoff 0, extent 1.27,-21.59 1.55,-19.05
3D body: height 0, standoff -3, extent 2.286,-20.447 2.794,-20.193
3D body: height 8, standoff 0, extent 3.531,-21.59 3.81,-19.05
3D body: height 8, standoff 0, extent 1.27,-21.59 3.81,-21.311
3D body: height 7.5, standoff 0, extent 2.007,-20.853 2.032,-19.787
3D body: height 7.5, standoff 0, extent 2.007,-19.812 3.074,-19.787
3D body: height 7, standoff 0, extent 2.007,-19.837 3.073,-19.786
3D body: height 8, standoff 7.5, extent 0.508,-21.336 1.009,-19.304
3D body: height 7.5, standoff 0, extent 0.508,-23.393 0.534,-22.327
3D body: height 7.5, standoff 0, extent -0.533,-23.393 0.533,-23.368
3D body: height 8, standoff 7.5, extent -1.016,-23.868 1.016,-23.368
3D body: height 8, standoff 7.5, extent 0.508,-23.876 1.009,-21.844
3D body: height 8, standoff 7.5, extent -1.016,-22.352 1.016,-21.852
3D body: height 8, standoff 7.5, extent -1.008,-23.901 -0.508,-21.869
3D body: height 8, standoff 0, extent -1.27,-21.869 1.27,-21.59
3D body: height 1, standoff 0, extent -0.635,-23.495 0.635,-22.225
3D body: height 7, standoff 0, extent 0.483,-23.393 0.533,-22.327
3D body: height 7, standoff 0, extent -0.533,-23.393 0.533,-23.343
3D body: height 7, standoff 0, extent -0.533,-23.393 -0.483,-22.327
3D body: height 8, standoff 0, extent -1.27,-24.13 -0.99,-21.59
3D body: height 0, standoff -3, extent -0.254,-22.987 0.254,-22.733
3D body: height 8, standoff 0, extent 0.991,-24.13 1.27,-21.59
3D body: height 8, standoff 0, extent -1.27,-24.13 1.27,-23.851
3D body: height 7.5, standoff 0, extent -0.533,-23.393 -0.508,-22.327
3D body: height 7.5, standoff 0, extent -0.533,-22.352 0.534,-22.327
3D body: height 7, standoff 0, extent -0.533,-22.377 0.533,-22.326
3D body: height 7.5, standoff 0, extent 0.508,-20.853 0.534,-19.787
3D body: height 7.5, standoff 0, extent -0.533,-20.853 0.533,-20.828
3D body: height 8, standoff 7.5, extent -1.016,-21.328 1.016,-20.828
3D body: height 8, standoff 7.5, extent -1.016,-19.812 1.016,-19.312
3D body: height 8, standoff 7.5, extent -1.008,-21.361 -0.508,-19.329
3D body: height 8, standoff 0, extent -1.27,-19.329 1.27,-19.05
3D body: height 1, standoff 0, extent -0.635,-20.955 0.635,-19.685
3D body: height 7, standoff 0, extent 0.483,-20.853 0.533,-19.787
3D body: height 7, standoff 0, extent -0.533,-20.853 0.533,-20.803
3D body: height 7, standoff 0, extent -0.533,-20.853 -0.483,-19.787
3D body: height 8, standoff 0, extent -1.27,-21.59 -0.99,-19.05
3D body: height 0, standoff -3, extent -0.254,-20.447 0.254,-20.193
3D body: height 8, standoff 0, extent 0.991,-21.59 1.27,-19.05
3D body: height 8, standoff 0, extent -1.27,-21.59 1.27,-21.311
3D body: height 7.5, standoff 0, extent -0.533,-20.853 -0.508,-19.787
3D body: height 7.5, standoff 0, extent -0.533,-19.812 0.534,-19.787
3D body: height 7, standoff 0, extent -0.533,-19.837 0.533,-19.786
3D body: height 8, standoff 7.5, extent 3.048,-16.256 3.549,-14.224
3D body: height 7.5, standoff 0, extent 3.048,-18.313 3.073,-17.247
3D body: height 7.5, standoff 0, extent 2.007,-18.313 3.073,-18.288
3D body: height 8, standoff 7.5, extent 1.524,-18.788 3.556,-18.288
3D body: height 8, standoff 7.5, extent 3.048,-18.796 3.549,-16.764
3D body: height 8, standoff 7.5, extent 1.524,-17.272 3.556,-16.771
3D body: height 8, standoff 7.5, extent 1.532,-18.821 2.032,-16.789
3D body: height 8, standoff 0, extent 1.27,-16.789 3.81,-16.51
3D body: height 1, standoff 0, extent 1.905,-18.415 3.175,-17.145
3D body: height 7, standoff 0, extent 3.023,-18.313 3.073,-17.246
3D body: height 7, standoff 0, extent 2.007,-18.313 3.073,-18.262
3D body: height 7, standoff 0, extent 2.007,-18.313 2.057,-17.246
3D body: height 8, standoff 0, extent 1.27,-19.05 1.549,-16.51
3D body: height 0, standoff -3, extent 2.286,-17.907 2.794,-17.653
3D body: height 8, standoff 0, extent 3.531,-19.05 3.81,-16.51
3D body: height 8, standoff 0, extent 1.27,-19.05 3.81,-18.771
3D body: height 7.5, standoff 0, extent 2.007,-18.313 2.032,-17.247
3D body: height 7.5, standoff 0, extent 2.007,-17.272 3.074,-17.247
3D body: height 7, standoff 0, extent 2.007,-17.297 3.073,-17.246
3D body: height 7.5, standoff 0, extent 3.048,-15.773 3.073,-14.707
3D body: height 7.5, standoff 0, extent 2.007,-15.773 3.073,-15.748
3D body: height 8, standoff 7.5, extent 1.524,-16.248 3.556,-15.748
3D body: height 8, standoff 7.5, extent 1.524,-14.732 3.556,-14.231
3D body: height 8, standoff 7.5, extent 1.532,-16.281 2.032,-14.249
3D body: height 8, standoff 0, extent 1.27,-14.249 3.81,-13.97
3D body: height 1, standoff 0, extent 1.905,-15.875 3.175,-14.605
3D body: height 7, standoff 0, extent 3.023,-15.773 3.073,-14.706
3D body: height 7, standoff 0, extent 2.007,-15.773 3.073,-15.722
3D body: height 7, standoff 0, extent 2.007,-15.773 2.057,-14.706
3D body: height 8, standoff 0, extent 1.27,-16.51 1.549,-13.97
3D body: height 0, standoff -3, extent 2.286,-15.367 2.794,-15.113
3D body: height 8, standoff 0, extent 3.531,-16.51 3.81,-13.97
3D body: height 8, standoff 0, extent 1.27,-16.51 3.81,-16.231
3D body: height 7.5, standoff 0, extent 2.007,-15.773 2.032,-14.707
3D body: height 7.5, standoff 0, extent 2.007,-14.732 3.074,-14.707
3D body: height 7, standoff 0, extent 2.007,-14.757 3.073,-14.706
3D body: height 8, standoff 7.5, extent 0.508,-16.256 1.009,-14.224
3D body: height 7.5, standoff 0, extent 0.508,-18.313 0.533,-17.247
3D body: height 7.5, standoff 0, extent -0.533,-18.313 0.533,-18.288
3D body: height 8, standoff 7.5, extent -1.016,-18.788 1.016,-18.288
3D body: height 8, standoff 7.5, extent 0.508,-18.796 1.009,-16.764
3D body: height 8, standoff 7.5, extent -1.016,-17.272 1.016,-16.771
3D body: height 8, standoff 7.5, extent -1.008,-18.821 -0.508,-16.789
3D body: height 8, standoff 0, extent -1.27,-16.789 1.27,-16.51
3D body: height 1, standoff 0, extent -0.635,-18.415 0.635,-17.145
3D body: height 7, standoff 0, extent 0.483,-18.313 0.533,-17.246
3D body: height 7, standoff 0, extent -0.533,-18.313 0.533,-18.262
3D body: height 7, standoff 0, extent -0.533,-18.313 -0.483,-17.246
3D body: height 8, standoff 0, extent -1.27,-19.05 -0.991,-16.51
3D body: height 0, standoff -3, extent -0.254,-17.907 0.254,-17.653
3D body: height 8, standoff 0, extent 0.991,-19.05 1.27,-16.51
3D body: height 8, standoff 0, extent -1.27,-19.05 1.27,-18.771
3D body: height 7.5, standoff 0, extent -0.533,-18.313 -0.508,-17.247
3D body: height 7.5, standoff 0, extent -0.533,-17.272 0.534,-17.247
3D body: height 7, standoff 0, extent -0.533,-17.297 0.533,-17.246
3D body: height 7.5, standoff 0, extent 0.508,-15.773 0.533,-14.707
3D body: height 7.5, standoff 0, extent -0.533,-15.773 0.533,-15.748
3D body: height 8, standoff 7.5, extent -1.016,-16.248 1.016,-15.748
3D body: height 8, standoff 7.5, extent -1.016,-14.732 1.016,-14.231
3D body: height 8, standoff 7.5, extent -1.008,-16.281 -0.508,-14.249
3D body: height 8, standoff 0, extent -1.27,-14.249 1.27,-13.97
3D body: height 1, standoff 0, extent -0.635,-15.875 0.635,-14.605
3D body: height 7, standoff 0, extent 0.483,-15.773 0.533,-14.706
3D body: height 7, standoff 0, extent -0.533,-15.773 0.533,-15.722
3D body: height 7, standoff 0, extent -0.533,-15.773 -0.483,-14.706
3D body: height 8, standoff 0, extent -1.27,-16.51 -0.991,-13.97
3D body: height 0, standoff -3, extent -0.254,-15.367 0.254,-15.113
3D body: height 8, standoff 0, extent 0.991,-16.51 1.27,-13.97
3D body: height 8, standoff 0, extent -1.27,-16.51 1.27,-16.231
3D body: height 7.5, standoff 0, extent -0.533,-15.773 -0.508,-14.707
3D body: height 7.5, standoff 0, extent -0.533,-14.732 0.534,-14.707
3D body: height 7, standoff 0, extent -0.533,-14.757 0.533,-14.706
3D body: height 8, standoff 7.5, extent 3.048,-11.176 3.549,-9.144
3D body: height 7.5, standoff 0, extent 3.048,-13.233 3.074,-12.167
3D body: height 7.5, standoff 0, extent 2.007,-13.233 3.073,-13.208
3D body: height 8, standoff 7.5, extent 1.524,-13.708 3.556,-13.208
3D body: height 8, standoff 7.5, extent 3.048,-13.716 3.549,-11.684
3D body: height 8, standoff 7.5, extent 1.524,-12.192 3.556,-11.692
3D body: height 8, standoff 7.5, extent 1.532,-13.741 2.032,-11.709
3D body: height 8, standoff 0, extent 1.27,-11.709 3.81,-11.43
3D body: height 1, standoff 0, extent 1.905,-13.335 3.175,-12.065
3D body: height 7, standoff 0, extent 3.023,-13.233 3.073,-12.167
3D body: height 7, standoff 0, extent 2.007,-13.233 3.073,-13.183
3D body: height 7, standoff 0, extent 2.007,-13.233 2.057,-12.167
3D body: height 8, standoff 0, extent 1.27,-13.97 1.55,-11.43
3D body: height 0, standoff -3, extent 2.286,-12.827 2.794,-12.573
3D body: height 8, standoff 0, extent 3.531,-13.97 3.81,-11.43
3D body: height 8, standoff 0, extent 1.27,-13.97 3.81,-13.691
3D body: height 7.5, standoff 0, extent 2.007,-13.233 2.032,-12.167
3D body: height 7.5, standoff 0, extent 2.007,-12.192 3.074,-12.167
3D body: height 7, standoff 0, extent 2.007,-12.217 3.073,-12.166
3D body: height 7.5, standoff 0, extent 3.048,-10.693 3.074,-9.627
3D body: height 7.5, standoff 0, extent 2.007,-10.693 3.073,-10.668
3D body: height 8, standoff 7.5, extent 1.524,-11.168 3.556,-10.668
3D body: height 8, standoff 7.5, extent 1.524,-9.652 3.556,-9.152
3D body: height 8, standoff 7.5, extent 1.532,-11.201 2.032,-9.169
3D body: height 8, standoff 0, extent 1.27,-9.169 3.81,-8.89
3D body: height 1, standoff 0, extent 1.905,-10.795 3.175,-9.525
3D body: height 7, standoff 0, extent 3.023,-10.693 3.073,-9.627
3D body: height 7, standoff 0, extent 2.007,-10.693 3.073,-10.643
3D body: height 7, standoff 0, extent 2.007,-10.693 2.057,-9.627
3D body: height 8, standoff 0, extent 1.27,-11.43 1.55,-8.89
3D body: height 0, standoff -3, extent 2.286,-10.287 2.794,-10.033
3D body: height 8, standoff 0, extent 3.531,-11.43 3.81,-8.89
3D body: height 8, standoff 0, extent 1.27,-11.43 3.81,-11.151
3D body: height 7.5, standoff 0, extent 2.007,-10.693 2.032,-9.627
3D body: height 7.5, standoff 0, extent 2.007,-9.652 3.074,-9.627
3D body: height 7, standoff 0, extent 2.007,-9.677 3.073,-9.626
3D body: height 8, standoff 7.5, extent 0.508,-11.176 1.009,-9.144
3D body: height 7.5, standoff 0, extent 0.508,-13.233 0.534,-12.167
3D body: height 7.5, standoff 0, extent -0.533,-13.233 0.533,-13.208
3D body: height 8, standoff 7.5, extent -1.016,-13.708 1.016,-13.208
3D body: height 8, standoff 7.5, extent 0.508,-13.716 1.009,-11.684
3D body: height 8, standoff 7.5, extent -1.016,-12.192 1.016,-11.692
3D body: height 8, standoff 7.5, extent -1.008,-13.741 -0.508,-11.709
3D body: height 8, standoff 0, extent -1.27,-11.709 1.27,-11.43
3D body: height 1, standoff 0, extent -0.635,-13.335 0.635,-12.065
3D body: height 7, standoff 0, extent 0.483,-13.233 0.533,-12.167
3D body: height 7, standoff 0, extent -0.533,-13.233 0.533,-13.183
3D body: height 7, standoff 0, extent -0.533,-13.233 -0.483,-12.167
3D body: height 8, standoff 0, extent -1.27,-13.97 -0.99,-11.43
3D body: height 0, standoff -3, extent -0.254,-12.827 0.254,-12.573
3D body: height 8, standoff 0, extent 0.991,-13.97 1.27,-11.43
3D body: height 8, standoff 0, extent -1.27,-13.97 1.27,-13.691
3D body: height 7.5, standoff 0, extent -0.533,-13.233 -0.508,-12.167
3D body: height 7.5, standoff 0, extent -0.533,-12.192 0.534,-12.167
3D body: height 7, standoff 0, extent -0.533,-12.217 0.533,-12.166
3D body: height 7.5, standoff 0, extent 0.508,-10.693 0.534,-9.627
3D body: height 7.5, standoff 0, extent -0.533,-10.693 0.533,-10.668
3D body: height 8, standoff 7.5, extent -1.016,-11.168 1.016,-10.668
3D body: height 8, standoff 7.5, extent -1.016,-9.652 1.016,-9.152
3D body: height 8, standoff 7.5, extent -1.008,-11.201 -0.508,-9.169
3D body: height 8, standoff 0, extent -1.27,-9.169 1.27,-8.89
3D body: height 1, standoff 0, extent -0.635,-10.795 0.635,-9.525
3D body: height 7, standoff 0, extent 0.483,-10.693 0.533,-9.627
3D body: height 7, standoff 0, extent -0.533,-10.693 0.533,-10.643
3D body: height 7, standoff 0, extent -0.533,-10.693 -0.483,-9.627
3D body: height 8, standoff 0, extent -1.27,-11.43 -0.99,-8.89
3D body: height 0, standoff -3, extent -0.254,-10.287 0.254,-10.033
3D body: height 8, standoff 0, extent 0.991,-11.43 1.27,-8.89
3D body: height 8, standoff 0, extent -1.27,-11.43 1.27,-11.151
3D body: height 7.5, standoff 0, extent -0.533,-10.693 -0.508,-9.627
3D body: height 7.5, standoff 0, extent -0.533,-9.652 0.534,-9.627
3D body: height 7, standoff 0, extent -0.533,-9.677 0.533,-9.626
3D body: height 8, standoff 7.5, extent 3.048,-6.096 3.549,-4.064
3D body: height 7.5, standoff 0, extent 3.048,-8.153 3.074,-7.087
3D body: height 7.5, standoff 0, extent 2.007,-8.153 3.073,-8.128
3D body: height 8, standoff 7.5, extent 1.524,-8.628 3.556,-8.128
3D body: height 8, standoff 7.5, extent 3.048,-8.636 3.549,-6.604
3D body: height 8, standoff 7.5, extent 1.524,-7.112 3.556,-6.612
3D body: height 8, standoff 7.5, extent 1.532,-8.661 2.032,-6.629
3D body: height 8, standoff 0, extent 1.27,-6.629 3.81,-6.35
3D body: height 1, standoff 0, extent 1.905,-8.255 3.175,-6.985
3D body: height 7, standoff 0, extent 3.023,-8.153 3.073,-7.087
3D body: height 7, standoff 0, extent 2.007,-8.153 3.073,-8.103
3D body: height 7, standoff 0, extent 2.007,-8.153 2.057,-7.087
3D body: height 8, standoff 0, extent 1.27,-8.89 1.55,-6.35
3D body: height 0, standoff -3, extent 2.286,-7.747 2.794,-7.493
3D body: height 8, standoff 0, extent 3.531,-8.89 3.81,-6.35
3D body: height 8, standoff 0, extent 1.27,-8.89 3.81,-8.611
3D body: height 7.5, standoff 0, extent 2.007,-8.153 2.032,-7.087
3D body: height 7.5, standoff 0, extent 2.007,-7.112 3.074,-7.087
3D body: height 7, standoff 0, extent 2.007,-7.137 3.073,-7.086
3D body: height 7.5, standoff 0, extent 3.048,-5.613 3.074,-4.547
3D body: height 7.5, standoff 0, extent 2.007,-5.613 3.073,-5.588
3D body: height 8, standoff 7.5, extent 1.524,-6.088 3.556,-5.588
3D body: height 8, standoff 7.5, extent 1.524,-4.572 3.556,-4.072
3D body: height 8, standoff 7.5, extent 1.532,-6.121 2.032,-4.089
3D body: height 8, standoff 0, extent 1.27,-4.089 3.81,-3.81
3D body: height 1, standoff 0, extent 1.905,-5.715 3.175,-4.445
3D body: height 7, standoff 0, extent 3.023,-5.613 3.073,-4.547
3D body: height 7, standoff 0, extent 2.007,-5.613 3.073,-5.563
3D body: height 7, standoff 0, extent 2.007,-5.613 2.057,-4.547
3D body: height 8, standoff 0, extent 1.27,-6.35 1.55,-3.81
3D body: height 0, standoff -3, extent 2.286,-5.207 2.794,-4.953
3D body: height 8, standoff 0, extent 3.531,-6.35 3.81,-3.81
3D body: height 8, standoff 0, extent 1.27,-6.35 3.81,-6.071
3D body: height 7.5, standoff 0, extent 2.007,-5.613 2.032,-4.547
3D body: height 7.5, standoff 0, extent 2.007,-4.572 3.074,-4.547
3D body: height 7, standoff 0, extent 2.007,-4.597 3.073,-4.546
3D body: height 8, standoff 7.5, extent 0.508,-6.096 1.009,-4.064
3D body: height 7.5, standoff 0, extent 0.508,-8.153 0.534,-7.087
3D body: height 7.5, standoff 0, extent -0.533,-8.153 0.533,-8.128
3D body: height 8, standoff 7.5, extent -1.016,-8.628 1.016,-8.128
3D body: height 8, standoff 7.5, extent 0.508,-8.636 1.009,-6.604
3D body: height 8, standoff 7.5, extent -1.016,-7.112 1.016,-6.612
3D body: height 8, standoff 7.5, extent -1.008,-8.661 -0.508,-6.629
3D body: height 8, standoff 0, extent -1.27,-6.629 1.27,-6.35
3D body: height 1, standoff 0, extent -0.635,-8.255 0.635,-6.985
3D body: height 7, standoff 0, extent 0.483,-8.153 0.533,-7.087
3D body: height 7, standoff 0, extent -0.533,-8.153 0.533,-8.103
3D body: height 7, standoff 0, extent -0.533,-8.153 -0.483,-7.087
3D body: height 8, standoff 0, extent -1.27,-8.89 -0.99,-6.35
3D body: height 0, standoff -3, extent -0.254,-7.747 0.254,-7.493
3D body: height 8, standoff 0, extent 0.991,-8.89 1.27,-6.35
3D body: height 8, standoff 0, extent -1.27,-8.89 1.27,-8.611
3D body: height 7.5, standoff 0, extent -0.533,-8.153 -0.508,-7.087
3D body: height 7.5, standoff 0, extent -0.533,-7.112 0.534,-7.087
3D body: height 7, standoff 0, extent -0.533,-7.137 0.533,-7.086
3D body: height 7.5, standoff 0, extent 0.508,-5.613 0.534,-4.547
3D body: height 7.5, standoff 0, extent -0.533,-5.613 0.533,-5.588
3D body: height 8, standoff 7.5, extent -1.016,-6.088 1.016,-5.588
3D body: height 8, standoff 7.5, extent -1.016,-4.572 1.016,-4.072
3D body: height 8, standoff 7.5, extent -1.008,-6.121 -0.508,-4.089
3D body: height 8, standoff 0, extent -1.27,-4.089 1.27,-3.81
3D body: height 1, standoff 0, extent -0.635,-5.715 0.635,-4.445
3D body: height 7, standoff 0, extent 0.483,-5.613 0.533,-4.547
3D body: height 7, standoff 0, extent -0.533,-5.613 0.533,-5.563
3D body: height 7, standoff 0, extent -0.533,-5.613 -0.483,-4.547
3D body: height 8, standoff 0, extent -1.27,-6.35 -0.99,-3.81
3D body: height 0, standoff -3, extent -0.254,-5.207 0.254,-4.953
3D body: height 8, standoff 0, extent 0.991,-6.35 1.27,-3.81
3D body: height 8, standoff 0, extent -1.27,-6.35 1.27,-6.071
3D body: height 7.5, standoff 0, extent -0.533,-5.613 -0.508,-4.547
3D body: height 7.5, standoff 0, extent -0.533,-4.572 0.534,-4.547
3D body: height 7, standoff 0, extent -0.533,-4.597 0.533,-4.546
3D body: height 8, standoff 7.5, extent 3.048,-1.016 3.549,1.016
3D body: height 7.5, standoff 0, extent 3.048,-3.074 3.074,-2.007
3D body: height 7.5, standoff 0, extent 2.007,-3.073 3.074,-3.048
3D body: height 8, standoff 7.5, extent 1.524,-3.549 3.556,-3.048
3D body: height 8, standoff 7.5, extent 3.048,-3.556 3.549,-1.524
3D body: height 8, standoff 7.5, extent 1.524,-2.032 3.556,-1.532
3D body: height 8, standoff 7.5, extent 1.532,-3.581 2.032,-1.549
3D body: height 8, standoff 0, extent 1.27,-1.55 3.81,-1.27
3D body: height 1, standoff 0, extent 1.905,-3.175 3.175,-1.905
3D body: height 7, standoff 0, extent 3.023,-3.073 3.074,-2.007
3D body: height 7, standoff 0, extent 2.007,-3.073 3.074,-3.023
3D body: height 7, standoff 0, extent 2.007,-3.073 2.058,-2.007
3D body: height 8, standoff 0, extent 1.27,-3.81 1.55,-1.27
3D body: height 0, standoff -3, extent 2.286,-2.667 2.794,-2.413
3D body: height 8, standoff 0, extent 3.531,-3.81 3.81,-1.27
3D body: height 8, standoff 0, extent 1.27,-3.81 3.81,-3.531
3D body: height 7.5, standoff 0, extent 2.007,-3.073 2.032,-2.007
3D body: height 7.5, standoff 0, extent 2.007,-2.032 3.074,-2.007
3D body: height 7, standoff 0, extent 2.007,-2.057 3.074,-2.006
3D body: height 7.5, standoff 0, extent 3.048,-0.534 3.074,0.533
3D body: height 7.5, standoff 0, extent 2.007,-0.533 3.074,-0.508
3D body: height 8, standoff 7.5, extent 1.524,-1.009 3.556,-0.508
3D body: height 8, standoff 7.5, extent 1.524,0.508 3.556,1.008
3D body: height 8, standoff 7.5, extent 1.532,-1.041 2.032,0.991
3D body: height 8, standoff 0, extent 1.27,0.99 3.81,1.27
3D body: height 1, standoff 0, extent 1.905,-0.635 3.175,0.635
3D body: height 7, standoff 0, extent 3.023,-0.533 3.074,0.533
3D body: height 7, standoff 0, extent 2.007,-0.533 3.074,-0.483
3D body: height 7, standoff 0, extent 2.007,-0.533 2.058,0.533
3D body: height 8, standoff 0, extent 1.27,-1.27 1.55,1.27
3D body: height 0, standoff -3, extent 2.286,-0.127 2.794,0.127
3D body: height 8, standoff 0, extent 3.531,-1.27 3.81,1.27
3D body: height 8, standoff 0, extent 1.27,-1.27 3.81,-0.991
3D body: height 7.5, standoff 0, extent 2.007,-0.533 2.032,0.533
3D body: height 7.5, standoff 0, extent 2.007,0.508 3.074,0.533
3D body: height 7, standoff 0, extent 2.007,0.483 3.074,0.534
3D body: height 8, standoff 7.5, extent 0.508,-1.016 1.009,1.016
3D body: height 7.5, standoff 0, extent 0.508,-3.074 0.534,-2.007
3D body: height 7.5, standoff 0, extent -0.533,-3.073 0.534,-3.048
3D body: height 8, standoff 7.5, extent -1.016,-3.549 1.016,-3.048
3D body: height 8, standoff 7.5, extent 0.508,-3.556 1.009,-1.524
3D body: height 8, standoff 7.5, extent -1.016,-2.032 1.016,-1.532
3D body: height 8, standoff 7.5, extent -1.008,-3.581 -0.508,-1.549
3D body: height 8, standoff 0, extent -1.27,-1.55 1.27,-1.27
3D body: height 1, standoff 0, extent -0.635,-3.175 0.635,-1.905
3D body: height 7, standoff 0, extent 0.483,-3.073 0.534,-2.007
3D body: height 7, standoff 0, extent -0.533,-3.073 0.534,-3.023
3D body: height 7, standoff 0, extent -0.533,-3.073 -0.482,-2.007
3D body: height 8, standoff 0, extent -1.27,-3.81 -0.99,-1.27
3D body: height 0, standoff -3, extent -0.254,-2.667 0.254,-2.413
3D body: height 8, standoff 0, extent 0.991,-3.81 1.27,-1.27
3D body: height 8, standoff 0, extent -1.27,-3.81 1.27,-3.531
3D body: height 7.5, standoff 0, extent -0.533,-3.073 -0.508,-2.007
3D body: height 7.5, standoff 0, extent -0.533,-2.032 0.534,-2.007
3D body: height 7, standoff 0, extent -0.533,-2.057 0.534,-2.006
3D body: height 7.5, standoff 0, extent 0.508,-0.534 0.534,0.533
3D body: height 7.5, standoff 0, extent -0.533,-0.533 0.534,-0.508
3D body: height 8, standoff 7.5, extent -1.016,-1.009 1.016,-0.508
3D body: height 8, standoff 7.5, extent -1.016,0.508 1.016,1.008
3D body: height 8, standoff 7.5, extent -1.008,-1.041 -0.508,0.991
3D body: height 8, standoff 0, extent -1.27,0.99 1.27,1.27
3D body: height 1, standoff 0, extent -0.635,-0.635 0.635,0.635
3D body: height 7, standoff 0, extent 0.483,-0.533 0.534,0.533
3D body: height 7, standoff 0, extent -0.533,-0.533 0.534,-0.483
3D body: height 7, standoff 0, extent -0.533,-0.533 -0.482,0.533
3D body: height 8, standoff 0, extent -1.27,-1.27 -0.99,1.27
3D body: height 0, standoff -3, extent -0.254,-0.127 0.254,0.127
3D body: height 8, standoff 0, extent 0.991,-1.27 1.27,1.27
3D body: height 8, standoff 0, extent -1.27,-1.27 1.27,-0.991
3D body: height 7.5, standoff 0, extent -0.533,-0.533 -0.508,0.533
3D body: height 7.5, standoff 0, extent -0.533,0.508 0.534,0.533
3D body: height 7, standoff 0, extent -0.533,0.483 0.534,0.534